# Altium schematic symbol library libSCH.SchLib: 587 symbols (part 3 of 5)
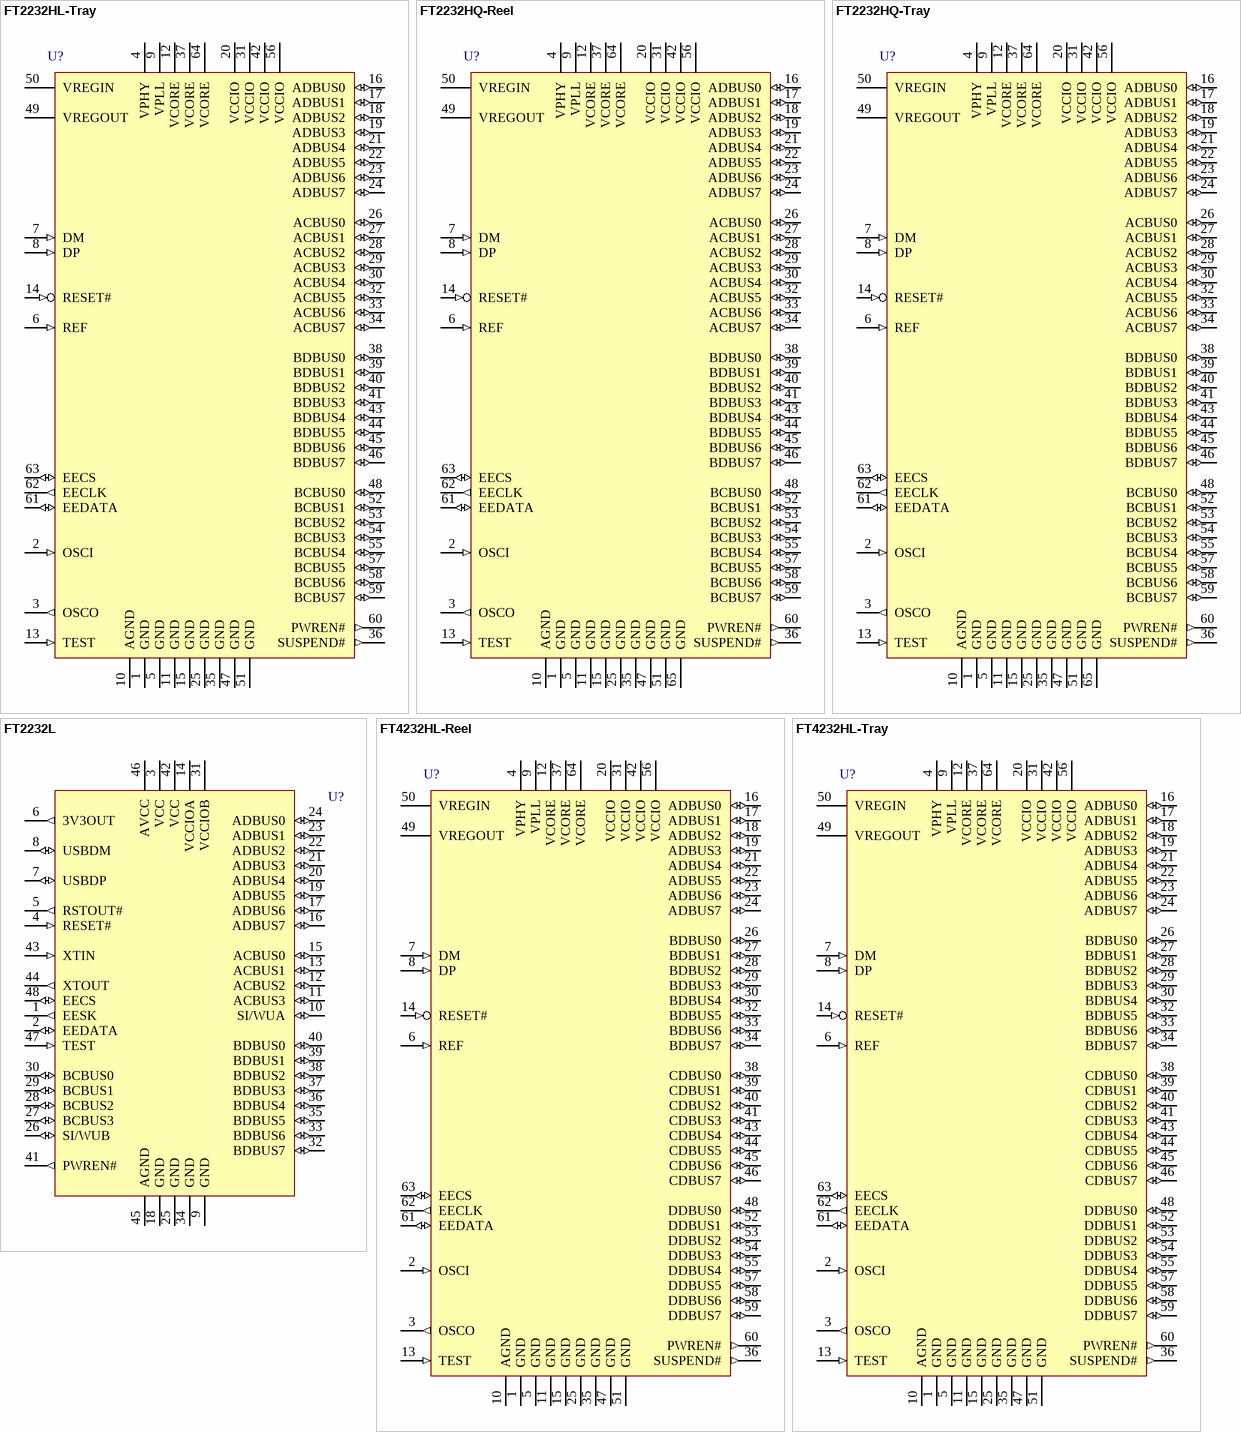
[diagram p27: symbols FT2232HL-Tray to FT4232HL-Tray]

## FT4232HL-Reel
designator U?
Quad High Speed USB To Multipurpose UART/MPSSE IC, LQFP-64, Tape and Reel; Published: 19-Aug-2010; DatasheetVersion: ver 2.08, May-2010; PackageVersion: 2010; PackageReference: LQFP-64; Publisher: Altium Limited; PackageDescription: 64-Pin Thin Quad Flat Pack, 10 x 10 x 1.4 mm Body, 0.5 mm Pitch; ComponentLink1Description: Manufacturer Link; ComponentLink1URL: http://www.ftdichip.com/Products/ICs/FT4232H.htm; ComponentLink2Description: Datasheet; ComponentLink2URL: http://www.ftdichip.com/Support/Documents/DataSheets/ICs/DS_FT4232H.pdf
footprint LQFP-64_N (Thin QFP, 64-Leads, Body 10x10mm, Pitch 0.5mm, IPC Medium Density)
footprint LQFP-64_L (Thin QFP, 64-Leads, Body 10x10mm, Pitch 0.5mm, IPC High Density)
footprint LQFP-64_M (Thin QFP, 64-Leads, Body 10x10mm, Pitch 0.5mm, IPC Low Density)
pins: 1 GND (power), 2 OSCI (in), 3 OSCO (out), 4 VPHY (power), 5 GND (power), 6 REF (in), 7 DM (in), 8 DP (in), 9 VPLL (power), 10 AGND (power), 11 GND (power), 12 VCORE (power), 13 TEST (in), 14 RESET# (in), 15 GND (power), 16 ADBUS0 (io), 17 ADBUS1 (io), 18 ADBUS2 (io), 19 ADBUS3 (io), 20 VCCIO (power), 21 ADBUS4 (io), 22 ADBUS5 (io), 23 ADBUS6 (io), 24 ADBUS7 (io), 25 GND (power), 26 BDBUS0 (io), 27 BDBUS1 (io), 28 BDBUS2 (io), 29 BDBUS3 (io), 30 BDBUS4 (io), 31 VCCIO (power), 32 BDBUS5 (io), 33 BDBUS6 (io), 34 BDBUS7 (io), 35 GND (power), 36 SUSPEND# (out), 37 VCORE (power), 38 CDBUS0 (io), 39 CDBUS1 (io), 40 CDBUS2 (io), 41 CDBUS3 (io), 42 VCCIO (power), 43 CDBUS4 (io), 44 CDBUS5 (io), 45 CDBUS6 (io), 46 CDBUS7 (io), 47 GND (power), 48 DDBUS0 (io), 49 VREGOUT (power), 50 VREGIN (power), 51 GND (power), 52 DDBUS1 (io), 53 DDBUS2 (io), 54 DDBUS3 (io), 55 DDBUS4 (io), 56 VCCIO (power), 57 DDBUS5 (io), 58 DDBUS6 (io), 59 DDBUS7 (io), 60 PWREN# (out), 61 EEDATA (io), 62 EECLK (out), 63 EECS (io), 64 VCORE (power)

## FT4232HL-Tray
designator U?
Quad High Speed USB To Multipurpose UART/MPSSE IC, LQFP-64, Tray; Published: 19-Aug-2010; DatasheetVersion: ver 2.08, May-2010; PackageVersion: 2010; PackageReference: LQFP-64; Publisher: Altium Limited; PackageDescription: 64-Pin Thin Quad Flat Pack, 10 x 10 x 1.4 mm Body, 0.5 mm Pitch; ComponentLink1Description: Manufacturer Link; ComponentLink1URL: http://www.ftdichip.com/Products/ICs/FT4232H.htm; ComponentLink2Description: Datasheet; ComponentLink2URL: http://www.ftdichip.com/Support/Documents/DataSheets/ICs/DS_FT4232H.pdf
footprint LQFP-64_N (Thin QFP, 64-Leads, Body 10x10mm, Pitch 0.5mm, IPC Medium Density)
footprint LQFP-64_L (Thin QFP, 64-Leads, Body 10x10mm, Pitch 0.5mm, IPC High Density)
footprint LQFP-64_M (Thin QFP, 64-Leads, Body 10x10mm, Pitch 0.5mm, IPC Low Density)
pins: 1 GND (power), 2 OSCI (in), 3 OSCO (out), 4 VPHY (power), 5 GND (power), 6 REF (in), 7 DM (in), 8 DP (in), 9 VPLL (power), 10 AGND (power), 11 GND (power), 12 VCORE (power), 13 TEST (in), 14 RESET# (in), 15 GND (power), 16 ADBUS0 (io), 17 ADBUS1 (io), 18 ADBUS2 (io), 19 ADBUS3 (io), 20 VCCIO (power), 21 ADBUS4 (io), 22 ADBUS5 (io), 23 ADBUS6 (io), 24 ADBUS7 (io), 25 GND (power), 26 BDBUS0 (io), 27 BDBUS1 (io), 28 BDBUS2 (io), 29 BDBUS3 (io), 30 BDBUS4 (io), 31 VCCIO (power), 32 BDBUS5 (io), 33 BDBUS6 (io), 34 BDBUS7 (io), 35 GND (power), 36 SUSPEND# (out), 37 VCORE (power), 38 CDBUS0 (io), 39 CDBUS1 (io), 40 CDBUS2 (io), 41 CDBUS3 (io), 42 VCCIO (power), 43 CDBUS4 (io), 44 CDBUS5 (io), 45 CDBUS6 (io), 46 CDBUS7 (io), 47 GND (power), 48 DDBUS0 (io), 49 VREGOUT (power), 50 VREGIN (power), 51 GND (power), 52 DDBUS1 (io), 53 DDBUS2 (io), 54 DDBUS3 (io), 55 DDBUS4 (io), 56 VCCIO (power), 57 DDBUS5 (io), 58 DDBUS6 (io), 59 DDBUS7 (io), 60 PWREN# (out), 61 EEDATA (io), 62 EECLK (out), 63 EECS (io), 64 VCORE (power)

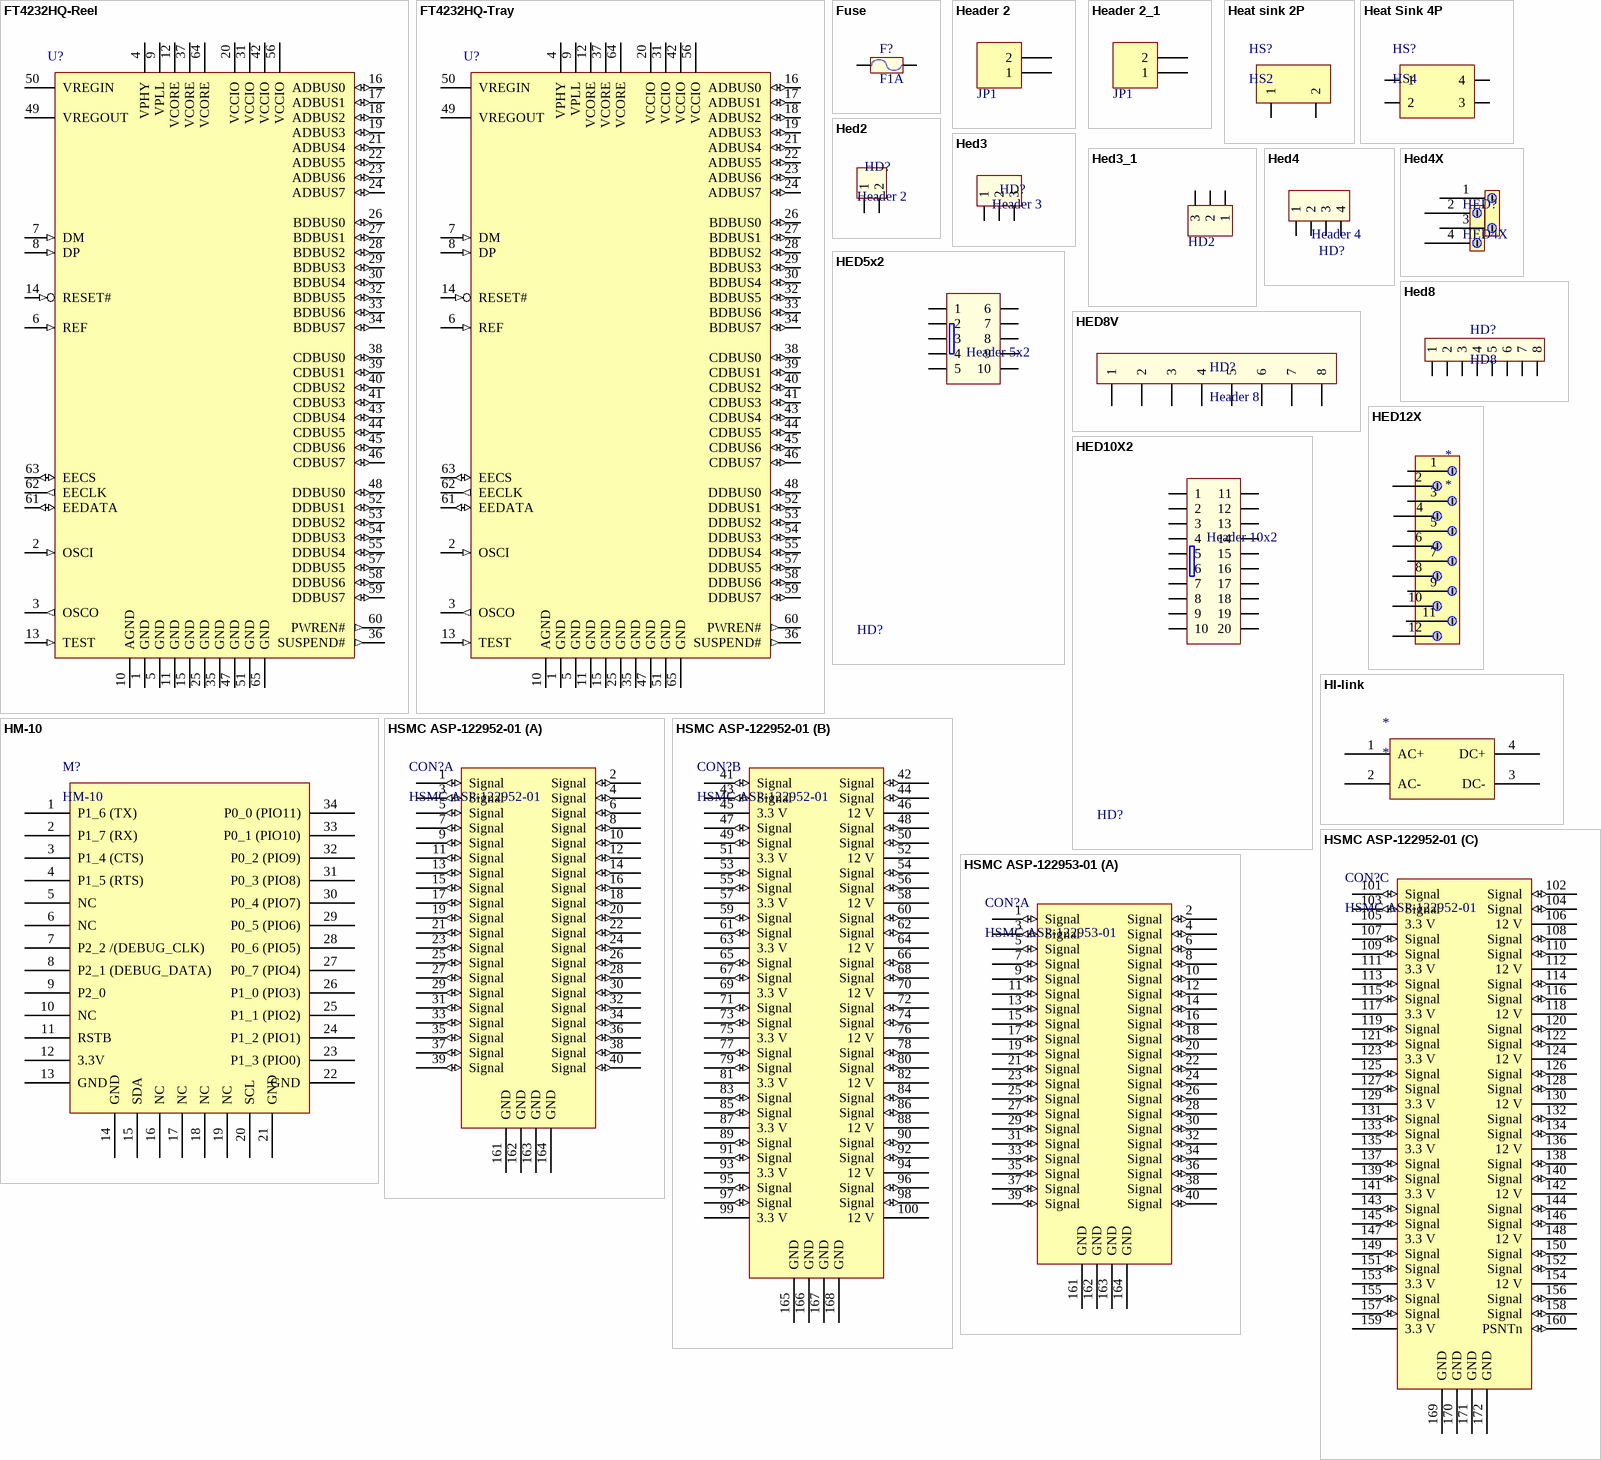
[diagram p12: symbols FT4232HQ-Reel to HSMC ASP-122953-01]

## FT4232HQ-Reel
designator U?
Quad High Speed USB To Multipurpose UART/MPSSE IC, QFN-64, Tape and Reel; Published: 30-Aug-2010; DatasheetVersion: ver 2.08, May-2010; PackageVersion: 2010; PackageReference: QFN64_2; Publisher: Altium Limited; PackageDescription: 64-Pin Quad Flat No-Lead, 9 x 9 mm Body, 0.5 mm Pitch, 4.35 x 4.35 mm Exposed Pad; ComponentLink1Description: Manufacturer Link; ComponentLink1URL: http://www.ftdichip.com/Products/ICs/FT4232H.htm; ComponentLink2Description: Datasheet; ComponentLink2URL: http://www.ftdichip.com/Support/Documents/DataSheets/ICs/DS_FT4232H.pdf
footprint QFN64_2_N (QFN, 64-Leads, Body 9x9mm, Pitch 0.5mm, IPC Medium Density)
footprint QFN64_2_L (QFN, 64-Leads, Body 9x9mm, Pitch 0.5mm, IPC High Density)
footprint QFN64_2_M (QFN, 64-Leads, Body 9x9mm, Pitch 0.5mm, IPC Low Density)
pins: 1 GND (power), 2 OSCI (in), 3 OSCO (out), 4 VPHY (power), 5 GND (power), 6 REF (in), 7 DM (in), 8 DP (in), 9 VPLL (power), 10 AGND (power), 11 GND (power), 12 VCORE (power), 13 TEST (in), 14 RESET# (in), 15 GND (power), 16 ADBUS0 (io), 17 ADBUS1 (io), 18 ADBUS2 (io), 19 ADBUS3 (io), 20 VCCIO (power), 21 ADBUS4 (io), 22 ADBUS5 (io), 23 ADBUS6 (io), 24 ADBUS7 (io), 25 GND (power), 26 BDBUS0 (io), 27 BDBUS1 (io), 28 BDBUS2 (io), 29 BDBUS3 (io), 30 BDBUS4 (io), 31 VCCIO (power), 32 BDBUS5 (io), 33 BDBUS6 (io), 34 BDBUS7 (io), 35 GND (power), 36 SUSPEND# (out), 37 VCORE (power), 38 CDBUS0 (io), 39 CDBUS1 (io), 40 CDBUS2 (io), 41 CDBUS3 (io), 42 VCCIO (power), 43 CDBUS4 (io), 44 CDBUS5 (io), 45 CDBUS6 (io), 46 CDBUS7 (io), 47 GND (power), 48 DDBUS0 (io), 49 VREGOUT (power), 50 VREGIN (power), 51 GND (power), 52 DDBUS1 (io), 53 DDBUS2 (io), 54 DDBUS3 (io), 55 DDBUS4 (io), 56 VCCIO (power), 57 DDBUS5 (io), 58 DDBUS6 (io), 59 DDBUS7 (io), 60 PWREN# (out), 61 EEDATA (io), 62 EECLK (out), 63 EECS (io), 64 VCORE (power), 65 GND (power)

## FT4232HQ-Tray
designator U?
Quad High Speed USB To Multipurpose UART/MPSSE IC, QFN-64, Tray; Published: 30-Aug-2010; DatasheetVersion: ver 2.08, May-2010; PackageVersion: 2010; PackageReference: QFN64_2; Publisher: Altium Limited; PackageDescription: 64-Pin Quad Flat No-Lead, 9 x 9 mm Body, 0.5 mm Pitch, 4.35 x 4.35 mm Exposed Pad; ComponentLink1Description: Manufacturer Link; ComponentLink1URL: http://www.ftdichip.com/Products/ICs/FT4232H.htm; ComponentLink2Description: Datasheet; ComponentLink2URL: http://www.ftdichip.com/Support/Documents/DataSheets/ICs/DS_FT4232H.pdf
footprint QFN64_2_N (QFN, 64-Leads, Body 9x9mm, Pitch 0.5mm, IPC Medium Density)
footprint QFN64_2_L (QFN, 64-Leads, Body 9x9mm, Pitch 0.5mm, IPC High Density)
footprint QFN64_2_M (QFN, 64-Leads, Body 9x9mm, Pitch 0.5mm, IPC Low Density)
pins: 1 GND (power), 2 OSCI (in), 3 OSCO (out), 4 VPHY (power), 5 GND (power), 6 REF (in), 7 DM (in), 8 DP (in), 9 VPLL (power), 10 AGND (power), 11 GND (power), 12 VCORE (power), 13 TEST (in), 14 RESET# (in), 15 GND (power), 16 ADBUS0 (io), 17 ADBUS1 (io), 18 ADBUS2 (io), 19 ADBUS3 (io), 20 VCCIO (power), 21 ADBUS4 (io), 22 ADBUS5 (io), 23 ADBUS6 (io), 24 ADBUS7 (io), 25 GND (power), 26 BDBUS0 (io), 27 BDBUS1 (io), 28 BDBUS2 (io), 29 BDBUS3 (io), 30 BDBUS4 (io), 31 VCCIO (power), 32 BDBUS5 (io), 33 BDBUS6 (io), 34 BDBUS7 (io), 35 GND (power), 36 SUSPEND# (out), 37 VCORE (power), 38 CDBUS0 (io), 39 CDBUS1 (io), 40 CDBUS2 (io), 41 CDBUS3 (io), 42 VCCIO (power), 43 CDBUS4 (io), 44 CDBUS5 (io), 45 CDBUS6 (io), 46 CDBUS7 (io), 47 GND (power), 48 DDBUS0 (io), 49 VREGOUT (power), 50 VREGIN (power), 51 GND (power), 52 DDBUS1 (io), 53 DDBUS2 (io), 54 DDBUS3 (io), 55 DDBUS4 (io), 56 VCCIO (power), 57 DDBUS5 (io), 58 DDBUS6 (io), 59 DDBUS7 (io), 60 PWREN# (out), 61 EEDATA (io), 62 EECLK (out), 63 EECS (io), 64 VCORE (power), 65 GND (power)

## Fuse
designator F?, comment F1A
Fuse; Designed by: VanDungEvn; Value: Fuse
footprint Fuse (De Fuse)
footprint FUSE1 (De Fuse Box)
footprint FUSE2 (Fuse)
pins: 1, 2

## Header 2
designator JP1
Header, 2-Pin; Manufacturer: Generic Components; Class: Connector; Value: Header 2
footprint HEDH
signal-integrity model Connector
pins: 1, 2

## Header 2_1
designator JP1
Header, 2-Pin; Manufacturer: Generic Components; Class: Connector; Value: Header 2
footprint HED2 (Header 2, 2 pin, hight 300mil, Pin to Pin 200, Colour Green)
pins: 1, 2

## Heat sink 2P
designator HS?, comment HS2
Heat Sink 2P
footprint Heat sink 46x17x70mm
pins: 1, 2

## Heat Sink 4P
designator HS?, comment HS4
Heat Sink 4
footprint HEAT SINK 40.2x21.2x40.3mm
pins: 1, 2, 3, 4

## Hed2
designator HD?, comment Header 2
Header 2 (Green); Value: Header 2
footprint HED2 (Header 2, 2 pin, hight 300mil, Pin to Pin 200, Colour Green)
footprint HED2T (Header 2, 2 pin, hight 300mil, Pin to Pin 200, Colour Green)
footprint HED2B (Header 2, 2 pin, hight 300mil, Pin to Pin 150, Colour White)
footprint HED2 - duplicate (Header 2, 2 pin, hight 300mil, Pin to Pin 200, Colour Green)
footprint HED2-7.62
pins: 1, 2

## Hed3
designator HD?, comment Header 3
Header 3 (Green); Value: Header 3
footprint HED3 (Header 3, 3 pin, hight 300mil, Pin to Pin 200)
footprint HED3T (Header 3, 3 pin, hight 300mil, Pin to Pin 200, Colour Green)
footprint HED3B (Header 3, 3 pin, hight 300mil, Pin to Pin 150, Colour White)
pins: 1, 2, 3

## Hed3_1
designator HD2
Header 3 (Green); Value: Header 3
footprint HED3 (Header 3, 3 pin, hight 300mil, Pin to Pin 200)
footprint HED3T (Header 3, 3 pin, hight 300mil, Pin to Pin 200, Colour Green)
footprint HED3B (Header 3, 3 pin, hight 300mil, Pin to Pin 150, Colour White)
pins: 1, 2, 3

## Hed4
designator HD?, comment Header 4
Header 4 (Green); Value: Header 4
footprint HED4 (Header 4, 4 pin, hight 300mil, Pin to Pin 200, Colour Green)
footprint HED4T (Header 4, 4 pin, hight 300mil, Pin to Pin 200, Colour Green)
footprint HED4B (Header 4, 4 pin, hight 300mil, Pin to Pin 150, Colour White)
pins: 1, 2, 3, 4

## Hed4X
designator HED?, comment HED4X
footprint HED4X
pins: 1 G, 2, 3, 4

## HED5x2
designator HD?, comment Header 5x2
Value: Header 5x2
footprint Hed2X5 (Header 10x2,20 pin, connecter)
pins: 1, 2, 3, 4, 5, 6, 7, 8, 9, 10

## Hed8
designator HD?, comment HD8
Hedear 8; Creat by: VanDungEvn@Gmail.com
footprint HED8 (CON8)
pins: 1, 2, 3, 4, 5, 6, 7, 8

## HED8V
designator HD?, comment Header 8
Header 8 Vit Broad
footprint HED8V (Header 6)
pins: 1, 2, 3, 4, 5, 6, 7, 8

## HED10X2
designator HD?, comment Header 10x2
Value: Header 5x2
footprint Hed2X10 (Header 10x2,20 pin, connecter)
pins: 1, 2, 3, 4, 5, 6, 7, 8, 9, 10, 11, 12, 13, 14, 15, 16, 17, 18, 19, 20

## HED12X
designator *
footprint Hed12X
pins: 1 G, 2 (power), 3 (power), 4 (power), 5 (power), 6 (power), 7 (power), 8 (power), 9 (power), 10 (power), 11 (power), 12 (power)

## HI-link
designator *
footprint Hi-link
pins: 1 AC+, 2 AC-, 3 DC-, 4 DC+

## HM-10
designator M?
CC2541 module with AT command
footprint HM10 (CC2541 module with AT Comand)
pins: 1 P1_6 (TX), 2 P1_7 (RX), 3 P1_4 (CTS), 4 P1_5 (RTS), 5 NC, 6 NC, 7 P2_2 /(DEBUG_CLK), 8 P2_1 (DEBUG_DATA), 9 P2_0, 10 NC, 11 RSTB, 12 3.3V, 13 GND, 14 GND, 15 SDA, 16 NC, 17 NC, 18 NC, 19 NC, 20 SCL, 21 GND, 22 GND, 23 P1_3 (PIO0), 24 P1_2 (PIO1), 25 P1_1 (PIO2), 26 P1_0 (PIO3), 27 P0_7 (PIO4), 28 P0_6 (PIO5), 29 P0_5 (PIO6), 30 P0_4 (PIO7), 31 P0_3 (PIO8), 32 P0_2 (PIO9), 33 P0_1 (PIO10), 34 P0_0 (PIO11)

## HSMC ASP-122952-01
designator CON?
HSMC ASP-122952-01 Connector (Female)
footprint HSMC ASP-122952-01-HOLE
footprint HSMC ASP-122953-01
part A pins: 1 Signal (io), 2 Signal (io), 3 Signal (io), 4 Signal (io), 5 Signal (io), 6 Signal (io), 7 Signal (io), 8 Signal (io), 9 Signal (io), 10 Signal (io), 11 Signal (io), 12 Signal (io), 13 Signal (io), 14 Signal (io), 15 Signal (io), 16 Signal (io), 17 Signal (io), 18 Signal (io), 19 Signal (io), 20 Signal (io), 21 Signal (io), 22 Signal (io), 23 Signal (io), 24 Signal (io), 25 Signal (io), 26 Signal (io), 27 Signal (io), 28 Signal (io), 29 Signal (io), 30 Signal (io), 31 Signal (io), 32 Signal (io), 33 Signal (io), 34 Signal (io), 35 Signal (io), 36 Signal (io), 37 Signal (io), 38 Signal (io), 39 Signal (io), 40 Signal (io), 161 GND, 162 GND, 163 GND, 164 GND
part B pins: 41 Signal (io), 42 Signal (io), 43 Signal (io), 44 Signal (io), 45 3.3 V (power), 46 12 V (power), 47 Signal (io), 48 Signal (io), 49 Signal (io), 50 Signal (io), 51 3.3 V (power), 52 12 V (power), 53 Signal (io), 54 Signal (io), 55 Signal (io), 56 Signal (io), 57 3.3 V (power), 58 12 V (power), 59 Signal (io), 60 Signal (io), 61 Signal (io), 62 Signal (io), 63 3.3 V (power), 64 12 V (power), 65 Signal (io), 66 Signal (io), 67 Signal (io), 68 Signal (io), 69 3.3 V (power), 70 12 V (power), 71 Signal (io), 72 Signal (io), 73 Signal (io), 74 Signal (io), 75 3.3 V (power), 76 12 V (power), 77 Signal (io), 78 Signal (io), 79 Signal (io), 80 Signal (io), 81 3.3 V (power), 82 12 V (power), 83 Signal (io), 84 Signal (io), 85 Signal (io), 86 Signal (io), 87 3.3 V (power), 88 12 V (power), 89 Signal (io), 90 Signal (io), 91 Signal (io), 92 Signal (io), 93 3.3 V (power), 94 12 V (power), 95 Signal (io), 96 Signal (io), 97 Signal (io), 98 Signal (io), 99 3.3 V (power), 100 12 V (power), 165 GND, 166 GND, 167 GND, 168 GND
part C pins: 101 Signal (io), 102 Signal (io), 103 Signal (io), 104 Signal (io), 105 3.3 V (power), 106 12 V (power), 107 Signal (io), 108 Signal (io), 109 Signal (io), 110 Signal (io), 111 3.3 V (power), 112 12 V (power), 113 Signal (io), 114 Signal (io), 115 Signal (io), 116 Signal (io), 117 3.3 V (power), 118 12 V (power), 119 Signal (io), 120 Signal (io), 121 Signal (io), 122 Signal (io), 123 3.3 V (power), 124 12 V (power), 125 Signal (io), 126 Signal (io), 127 Signal (io), 128 Signal (io), 129 3.3 V (power), 130 12 V (power), 131 Signal (io), 132 Signal (io), 133 Signal (io), 134 Signal (io), 135 3.3 V (power), 136 12 V (power), 137 Signal (io), 138 Signal (io), 139 Signal (io), 140 Signal (io), 141 3.3 V (power), 142 12 V (power), 143 Signal (io), 144 Signal (io), 145 Signal (io), 146 Signal (io), 147 3.3 V (power), 148 12 V (power), 149 Signal (io), 150 Signal (io), 151 Signal (io), 152 Signal (io), 153 3.3 V (power), 154 12 V (power), 155 Signal (io), 156 Signal (io), 157 Signal (io), 158 Signal (io), 159 3.3 V (power), 160 PSNTn (io), 169 GND, 170 GND, 171 GND, 172 GND

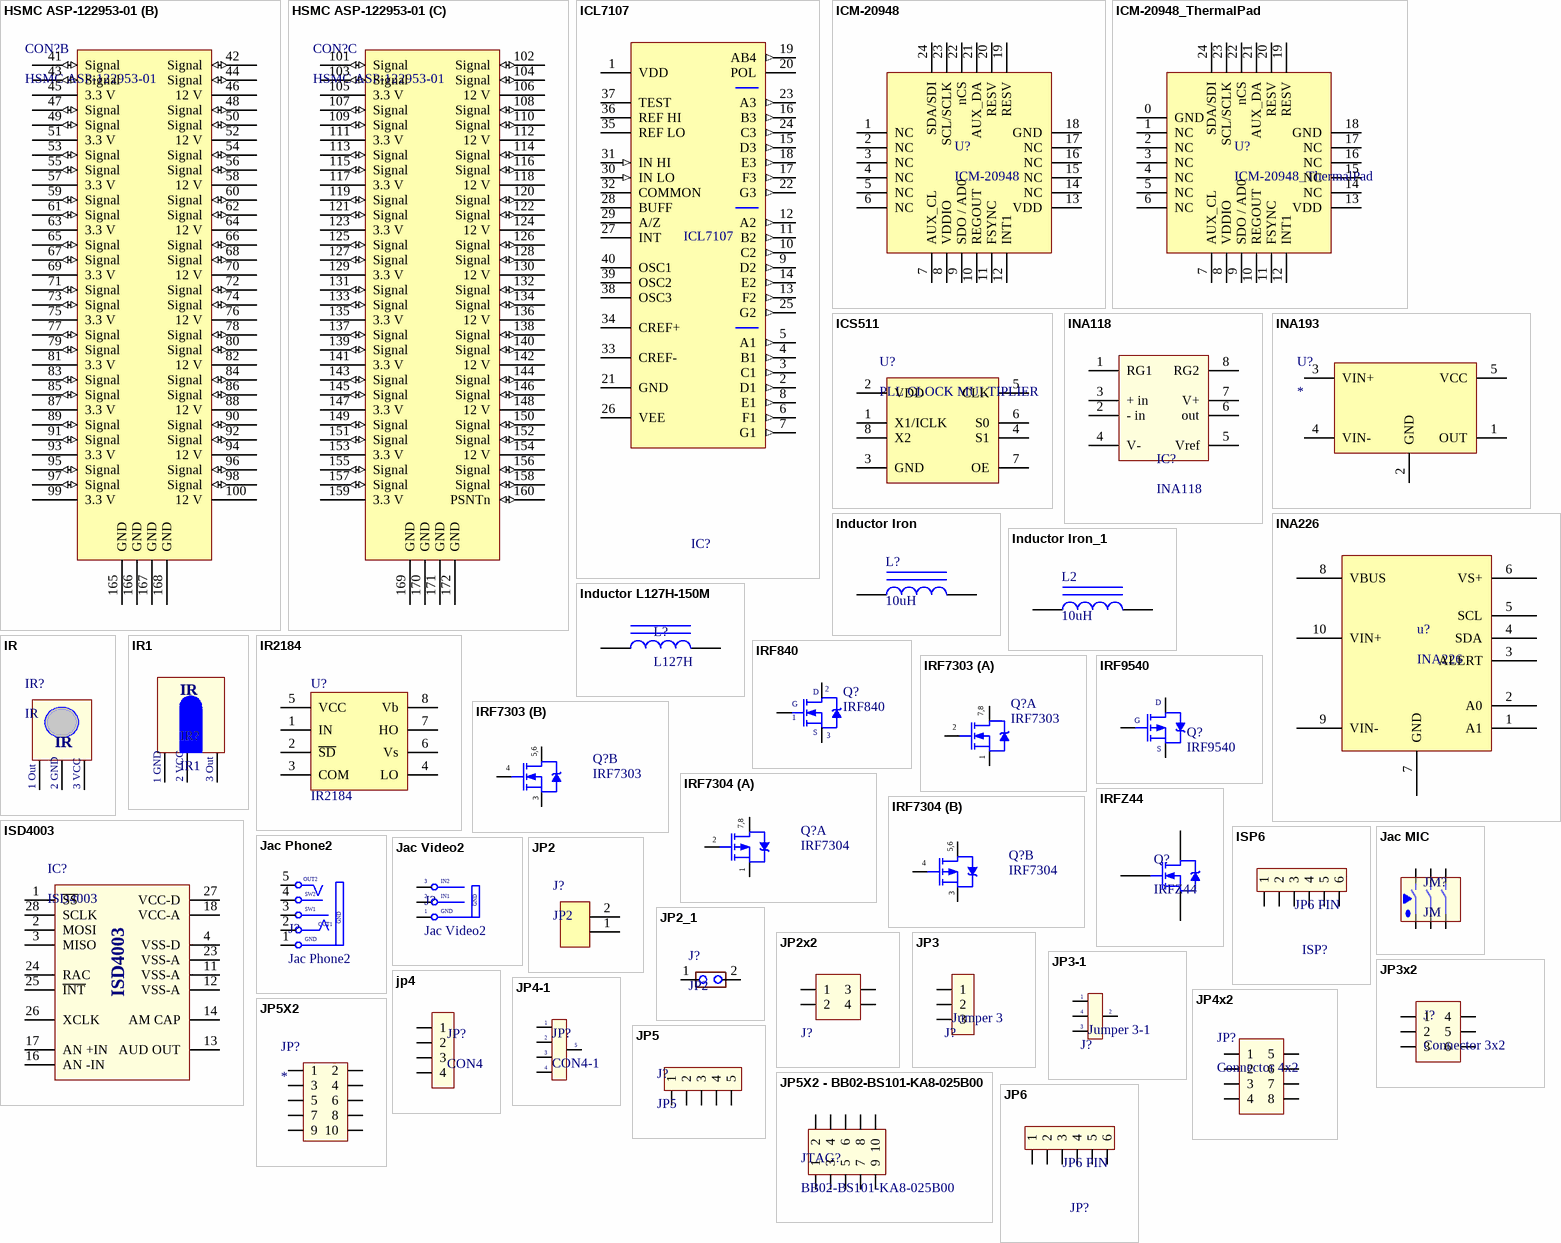
[diagram p13: symbols HSMC ASP-122953-01 to JP6]

## HSMC ASP-122953-01
designator CON?
HSMC ASP-122953-01 Connector
footprint HSMC ASP-122953-01
part A pins: 1 Signal (io), 2 Signal (io), 3 Signal (io), 4 Signal (io), 5 Signal (io), 6 Signal (io), 7 Signal (io), 8 Signal (io), 9 Signal (io), 10 Signal (io), 11 Signal (io), 12 Signal (io), 13 Signal (io), 14 Signal (io), 15 Signal (io), 16 Signal (io), 17 Signal (io), 18 Signal (io), 19 Signal (io), 20 Signal (io), 21 Signal (io), 22 Signal (io), 23 Signal (io), 24 Signal (io), 25 Signal (io), 26 Signal (io), 27 Signal (io), 28 Signal (io), 29 Signal (io), 30 Signal (io), 31 Signal (io), 32 Signal (io), 33 Signal (io), 34 Signal (io), 35 Signal (io), 36 Signal (io), 37 Signal (io), 38 Signal (io), 39 Signal (io), 40 Signal (io), 161 GND, 162 GND, 163 GND, 164 GND
part B pins: 41 Signal (io), 42 Signal (io), 43 Signal (io), 44 Signal (io), 45 3.3 V (power), 46 12 V (power), 47 Signal (io), 48 Signal (io), 49 Signal (io), 50 Signal (io), 51 3.3 V (power), 52 12 V (power), 53 Signal (io), 54 Signal (io), 55 Signal (io), 56 Signal (io), 57 3.3 V (power), 58 12 V (power), 59 Signal (io), 60 Signal (io), 61 Signal (io), 62 Signal (io), 63 3.3 V (power), 64 12 V (power), 65 Signal (io), 66 Signal (io), 67 Signal (io), 68 Signal (io), 69 3.3 V (power), 70 12 V (power), 71 Signal (io), 72 Signal (io), 73 Signal (io), 74 Signal (io), 75 3.3 V (power), 76 12 V (power), 77 Signal (io), 78 Signal (io), 79 Signal (io), 80 Signal (io), 81 3.3 V (power), 82 12 V (power), 83 Signal (io), 84 Signal (io), 85 Signal (io), 86 Signal (io), 87 3.3 V (power), 88 12 V (power), 89 Signal (io), 90 Signal (io), 91 Signal (io), 92 Signal (io), 93 3.3 V (power), 94 12 V (power), 95 Signal (io), 96 Signal (io), 97 Signal (io), 98 Signal (io), 99 3.3 V (power), 100 12 V (power), 165 GND, 166 GND, 167 GND, 168 GND
part C pins: 101 Signal (io), 102 Signal (io), 103 Signal (io), 104 Signal (io), 105 3.3 V (power), 106 12 V (power), 107 Signal (io), 108 Signal (io), 109 Signal (io), 110 Signal (io), 111 3.3 V (power), 112 12 V (power), 113 Signal (io), 114 Signal (io), 115 Signal (io), 116 Signal (io), 117 3.3 V (power), 118 12 V (power), 119 Signal (io), 120 Signal (io), 121 Signal (io), 122 Signal (io), 123 3.3 V (power), 124 12 V (power), 125 Signal (io), 126 Signal (io), 127 Signal (io), 128 Signal (io), 129 3.3 V (power), 130 12 V (power), 131 Signal (io), 132 Signal (io), 133 Signal (io), 134 Signal (io), 135 3.3 V (power), 136 12 V (power), 137 Signal (io), 138 Signal (io), 139 Signal (io), 140 Signal (io), 141 3.3 V (power), 142 12 V (power), 143 Signal (io), 144 Signal (io), 145 Signal (io), 146 Signal (io), 147 3.3 V (power), 148 12 V (power), 149 Signal (io), 150 Signal (io), 151 Signal (io), 152 Signal (io), 153 3.3 V (power), 154 12 V (power), 155 Signal (io), 156 Signal (io), 157 Signal (io), 158 Signal (io), 159 3.3 V (power), 160 PSNTn (io), 169 GND, 170 GND, 171 GND, 172 GND

## ICL7107
designator IC?
Dipslay voltage 0 - 1999; Value: ICL7107
footprint DIP40/W0.6 (40 PIN, W 600mil, Pin to pin 100mil)
pins: 1 VDD (power), 2 D1 (out), 3 C1 (out), 4 B1 (out), 5 A1 (out), 6 F1 (out), 7 G1 (out), 8 E1 (out), 9 D2 (out), 10 C2 (out), 11 B2 (out), 12 A2 (out), 13 F2 (out), 14 E2 (out), 15 D3 (out), 16 B3 (out), 17 F3 (out), 18 E3 (out), 19 AB4 (out), 20 POL, 21 GND (power), 22 G3 (out), 23 A3 (out), 24 C3 (out), 25 G2 (out), 26 VEE (power), 27 INT, 28 BUFF, 29 A/Z, 30 IN LO (in), 31 IN HI (in), 32 COMMON, 33 CREF-, 34 CREF+, 35 REF LO, 36 REF HI, 37 TEST, 38 OSC3, 39 OSC2, 40 OSC1

## ICM-20948
designator U?
footprint QFN24 3.0x3.0x0.9
pins: 1 NC, 2 NC, 3 NC, 4 NC, 5 NC, 6 NC, 7 AUX_CL, 8 VDDIO, 9 SDO / AD0, 10 REGOUT, 11 FSYNC, 12 INT1, 13 VDD, 14 NC, 15 NC, 16 NC, 17 NC, 18 GND, 19 RESV, 20 RESV, 21 AUX_DA, 22 nCS, 23 SCL/SCLK, 24 SDA/SDI

## ICM-20948_ThermalPad
designator U?
footprint QFN24 3.0x3.0x0.9
pins: 0 GND, 1 NC, 2 NC, 3 NC, 4 NC, 5 NC, 6 NC, 7 AUX_CL, 8 VDDIO, 9 SDO / AD0, 10 REGOUT, 11 FSYNC, 12 INT1, 13 VDD, 14 NC, 15 NC, 16 NC, 17 NC, 18 GND, 19 RESV, 20 RESV, 21 AUX_DA, 22 nCS, 23 SCL/SCLK, 24 SDA/SDI

## ICS511
designator U?, comment PLL CLOCK MULTIPLIER
LOCO™ PLL CLOCK MULTIPLIER
footprint SOP8
pins: 1 X1/ICLK, 2 VDD, 3 GND, 4 S1, 5 CLK, 6 S0, 7 OE, 8 X2

## INA118
designator IC?
Precision, Low Power  INSTRUMENTATION AMPLIFIER; Designed by: VanDungEvn; Value: INA118
footprint DIP8/W0.3 (8 PIN, W 300mil, Pin to pin 100mil)
pins: 1 RG1, 2 - in, 3 + in, 4 V-, 5 Vref, 6 out, 7 V+, 8 RG2

## INA193
designator U?
INA19x Current Shunt Monitor −16 V to +80 V Common-Mode Range
footprint SOT-23-5
pins: 1 OUT, 2 GND, 3 VIN+, 4 VIN-, 5 VCC

## INA226
designator u?
INA226 High-Side or Low-Side Measurement with I2C Compatible Interface; Manufacture: Texas Instruments; Part Number: INA226; Value: INA226; Unit Price: *
footprint DGS (S - PDSO - G10) (TSSOP10) (TSSOP, 10-Leads, Body 3x3mm, Pitch 0.5mm)
pins: 1 A1, 2 A0, 3 ALERT, 4 SDA, 5 SCL, 6 VS+, 7 GND, 8 VBUS, 9 VIN-, 10 VIN+

## Inductor Iron
designator L?  value 10uH  (hidden comment: Inductor Iron)
Magnetic-Core Inductor; Manufacturer: Generic Components; Class: Passive; Published: 1999; SubClass: Inductor
footprint R1/2W (R 1/2W, 2 pin, 300mil)
footprint 0805_Inductor (Chip Resistor, Body 2.0x1.2mm, IPC Medium Density)
footprint CD75 (Inductor SMD)
pins: 1, 2

## Inductor Iron_1
designator L2, comment value 10uH  (hidden comment: Inductor Iron)
Magnetic-Core Inductor; Manufacturer: Generic Components; Class: Passive; Published: 1999; SubClass: Inductor
footprint R1/2W (R 1/2W, 2 pin, 300mil)
pins: 1, 2

## Inductor L127H-150M
designator L?, comment L127H
15uH/3A SMD 12x12x8mm inductor (tme.vn)
footprint 12x12x8mm inductor
pins: 1, 2

## IR
designator IR?
Receiver Infraed IC
footprint IR (Receiver Infared IC)
pins: 1 Out, 2 GND, 3 VCC
text: 1 Out; 2 GND; 3 VCC

## IR1
designator IR?
Receiver Infraed IC
footprint IR2 (Receiver Infared IC)
pins: 1 Out, 2 GND, 3 VCC
text: IR; 1 GND; 2 VCC; 3 Out

## IR2184
designator U?
Half-Bridge Driver
footprint DIP8/W0.3 (8 PIN, W 300mil, Pin to pin 100mil)
pins: 1 IN, 2 ~{SD}, 3 COM, 4 LO, 5 VCC, 6 Vs, 7 HO, 8 Vb

## IRF840
designator Q?
MOSFET N - CHANNEL 500V - 0.75 - 8A - TO-220; Value: IRF840
footprint QTO-220 (TO-220 - 1-2-3)
footprint TO-220AB - Horizontal (TO, Thru-Hole, Horizontal, Heatsink Mounted; 3 In-Line Leads; Pitch 2.54 mm)
pins: 1 G, 2 D, 3 S

## IRF7303
designator Q?
HEXFET Power MOSFET; Published: 8-Jun-2000; LatestRevisionDate: 13-Apr-2006; LatestRevisionNote: IPC-7351 Footprint Added.; DatasheetVersion: Aug-1997; PackageVersion: Feb-2001; PackageReference: SO-8; Publisher: Altium Limited; PackageDescription: 8-Pin Plastic Small Outline Integrated Circuit 1.27 mm Pitch; Code_JEDEC: MS-012-AA; Code_IPC: SOIC127P600-8; ComponentLink1Description: Manufacturer Link; ComponentLink1URL: http://www.irf.com/; ComponentLink2Description: Datasheet; ComponentLink2URL: http://www.irf.com/product-info/datasheets/data/irf7303.pdf
footprint SO-8 (8-Pin Small Outline Integrated Circuit 1.27 mm Pitch, IPC Medium Density)
part A pins: 1 S, 2 G, 7 D, 8 D
part B pins: 3 S, 4 G, 5 D, 6 D
part A text: 7,8
part B text: 5,6

## IRF7304
designator Q?
HEXFET Power MOSFET; Published: 8-Jun-2000; LatestRevisionDate: 13-Apr-2006; LatestRevisionNote: IPC-7351 Footprint Added.; DatasheetVersion: Aug-1997; PackageVersion: Feb-2001; PackageReference: SO-8; Publisher: Altium Limited; PackageDescription: 8-Pin Plastic Small Outline Integrated Circuit 1.27 mm Pitch; Code_JEDEC: MS-012-AA; Code_IPC: SOIC127P600-8; ComponentLink1Description: Manufacturer Link; ComponentLink1URL: http://www.irf.com/; ComponentLink2Description: Datasheet; ComponentLink2URL: http://www.irf.com/product-info/datasheets/data/irf7304.pdf
footprint SO-8 (8-Pin Small Outline Integrated Circuit 1.27 mm Pitch, IPC Medium Density)
simulation model IRF7304 (SUBCKT)
part A pins: 1 S, 2 G, 7 D, 8 D
part B pins: 3 S, 4 G, 5 D, 6 D
part A text: 7,8
part B text: 5,6

## IRF9540
designator Q?
HEXFET P-Channel Power MOSFET; Note: Pin 2 is electrically connected to pin 4.; Published: 8-Jun-2000; LatestRevisionDate: 17-Jul-2002; LatestRevisionNote: Re-released for DXP Platform.; DatasheetVersion: PD-9.421C; PackageVersion: Feb-1997; PackageReference: TO-220AB; Publisher: Altium Limited; PackageDescription: TO, Thru-Hole, Vertical, Heatsink Mounted; 3 In-Line Leads; Pitch 2.54 mm; ComponentLink1Description: Manufacturer Link; ComponentLink1URL: http://www.irf.com/; ComponentLink2Description: Datasheet; ComponentLink2URL: http://www.irf.com/product-info/datasheets/data/irf9540.pdf
footprint QTO-220 (TO-220 - 1-2-3)
simulation model IRF9540 (SUBCKT)
pins: 1 G, 2 D, 3 S

## IRFZ44
designator Q?
HEXFET N-Channel Power MOSFET
footprint QTO-220H3 (TO-220 1-2-3)
pins: 1 G, 2 D, 3 S

## ISD4003
designator IC?
Single-chip voice Record/Playback solution
footprint DIP28/W0.6 (DIP28/W.600, Pin to pin 100mil)
pins: 1 ~{SS}, 2 MOSI, 3 MISO, 4 VSS-D, 11 VSS-A, 12 VSS-A, 13 AUD OUT, 14 AM CAP, 16 AN -IN, 17 AN +IN, 18 VCC-A, 23 VSS-A, 24 RAC, 25 ~{INT}, 26 XCLK, 27 VCC-D, 28 SCLK

## ISP6
designator ISP?, comment JP6 PIN
ISP6 PIN; Value: JP7
footprint ISP6 (Jac nap PIC)
pins: 1, 2, 3, 4, 5, 6, 7, 8

## Jac MIC
designator JM?, comment JM
Jac Micro; Value: Jac MIC to 6 pin
footprint MIC6 (Footprint not found)
pins: 1, 2, 3, 4, 5, 6

## Jac Phone2
designator J?
Jac Phone Stereo; Creat by: VanDungEvn@Gmail.com
footprint JacPhone2 (Jac Phone Stereo)
footprint JAC_PHONE2 (Jac Phone Stereo)
pins: 1 "Tip", 2 "Tip Normal (Break Contact)", 3 "Tip Normal (Break Contact)", 4 (power) "Sleeve (Ground)", 5 (power) "Sleeve (Ground)"
text: OUT2; SW2; SW1; GND; OUT1

## Jac Video2
designator J?
Jac Video Stereo
footprint Jac Video2 (Footprint not found)
pins: 1 GND "Tip", 2 S1 (power) "Sleeve (Ground)", 3 S2 "Tip Normal (Break Contact)"
text: IN2; IN1

## JP2
designator J?
footprint JP2
footprint JP2 1.27mm
footprint jp2-3.96mm
footprint JP2_Pitch2mm
footprint Terminal block 10mm pitch - 2p
pins: 1 9, 2

## JP2_1
designator J?, comment JP2
footprint JP2
footprint JP2 1.27mm
footprint jp2-3.96mm
footprint JP2_Pitch2mm
footprint Terminal block 10mm pitch - 2p
pins: 1 9, 2

## JP2x2
designator J?, comment Jumper 2x2  (value not drawn)
Value: JP 2x2
footprint JP2X2
footprint JP2x2FM
footprint JP2x2 - 2.54mm SMD
pins: 1, 2, 3, 4

## JP3
designator J?, comment Jumper 3
Value: J3
footprint JP3 (Jumper 3)
footprint JP3H
footprint JP3x1 1.27
pins: 1, 2, 3

## JP3-1
designator J?, comment Jumper 3-1
Value: J3-1
footprint J3-1 (Jumper 4)
pins: 1, 2, 3, 4

## JP3x2
designator J?, comment Connector 3x2
Value: Connector 3x2
footprint JP3x2 (Connector 3x2)
pins: 1, 2, 3, 4, 5, 6

## jp4
designator JP?, comment CON4
footprint JP4 (Jumper 4)
pins: 1, 2, 3, 4

## JP4-1
designator JP?, comment CON4-1
Switch 4ch CON; Manufacture: *; Unit Price: *; Part Number: *; Value: CON
footprint JP4-1 (Switching 4ch con)
pins: 1, 2, 3, 4, 5

## JP4x2
designator JP?, comment Connector 4x2
Value: Connector 4x2
footprint JP4x2 (Connector 4x2)
footprint JP4x2 - FEMALE (Connector 4x2)
footprint JP4x2 - 2.54mm SMD
pins: 1, 2, 3, 4, 5, 6, 7, 8

## JP5
designator J?
footprint JP5
footprint JP5H
pins: 1, 2, 3, 4, 5

## JP5X2
designator JP?
footprint JP5X2
footprint JP5X2 - FEMALE
footprint IDC10 HORIZONTAL
footprint JP5x2 - 2.54mm SMD
pins: 1, 2, 3, 4, 5, 6, 7, 8, 9, 10

## JP5X2 - BB02-BS101-KA8-025B00
designator JTAG?, comment BB02-BS101-KA8-025B00
CONNECTOR, HEADER, MALE, 2 ROWS, 10 PINS, PITCH 1.27mm, SMD; Manufacture: GradConn; Unit Price: *; Part Number: *; Value: *
footprint JP5x2_1.27mm Pitch SMD
pins: 1, 2, 3, 4, 5, 6, 7, 8, 9, 10

## JP6
designator JP?, comment JP6 PIN
Value: JP7
footprint JP6
footprint JP6H
footprint 6P - TERMINAL BLOCK 9.5MM
pins: 1, 2, 3, 4, 5, 6

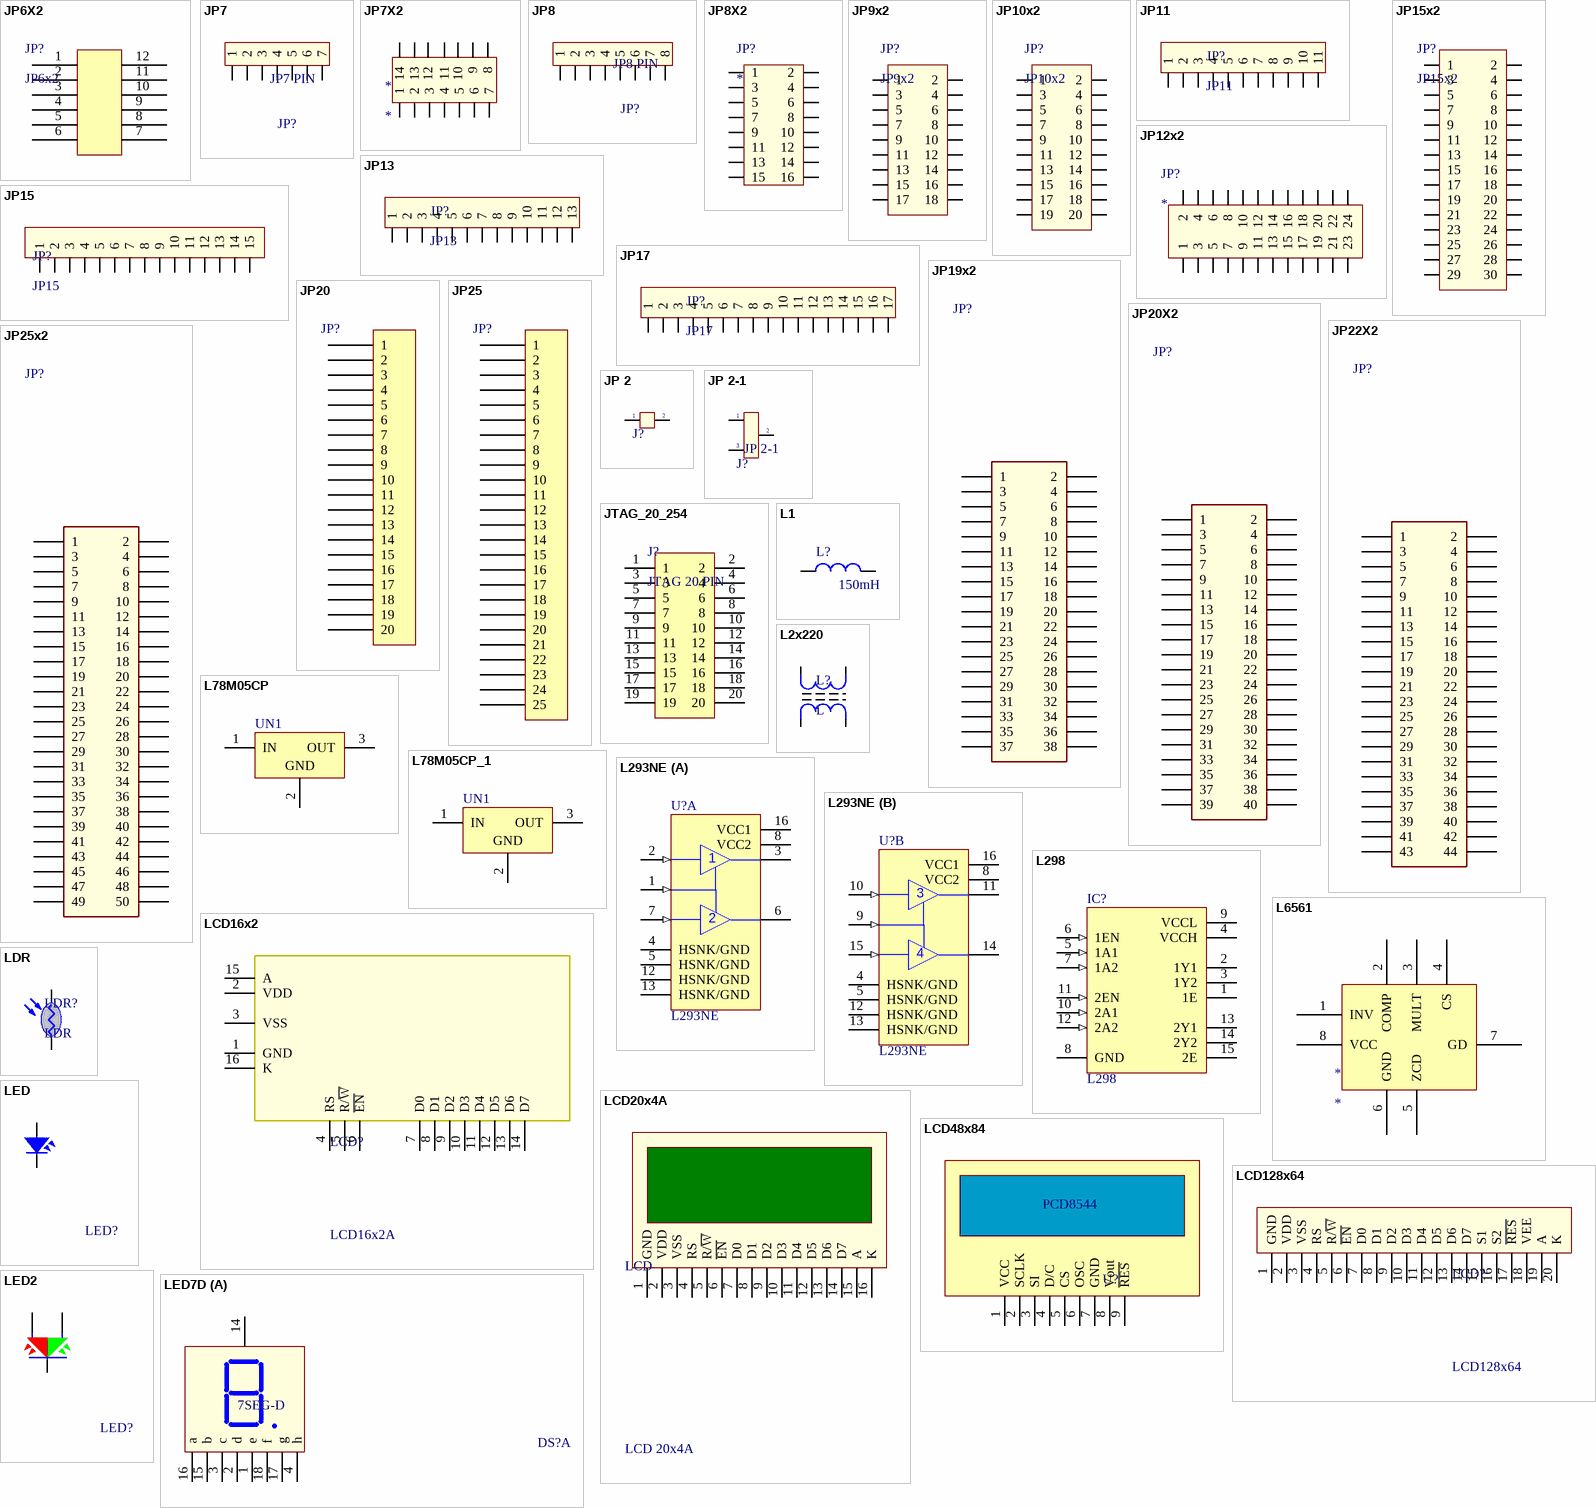
[diagram p14: symbols JP6X2 to LED7D]

## JP6X2
designator JP?, comment JP6x2
footprint JP6X2
pins: 1, 2, 3, 4, 5, 6, 7, 8, 9, 10, 11, 12

## JP7
designator JP?, comment JP7 PIN
Value: JP7
footprint JP7
footprint JP7H
pins: 1, 2, 3, 4, 5, 6, 7

## JP7X2
designator *
footprint JP7X2
pins: 1, 2, 3, 4, 5, 6, 7, 8, 9, 10, 11, 12, 13, 14

## JP8
designator JP?, comment JP8 PIN
Value: JP7
footprint JP8
footprint JP8H
pins: 1, 2, 3, 4, 5, 6, 7, 8

## JP8X2
designator JP?
footprint JP8X2
footprint JP8X2 - female
pins: 1, 2, 3, 4, 5, 6, 7, 8, 9, 10, 11, 12, 13, 14, 15, 16

## JP9x2
designator JP?
footprint JP9x2
pins: 1, 2, 3, 4, 5, 6, 7, 8, 9, 10, 11, 12, 13, 14, 15, 16, 17, 18

## JP10x2
designator JP?
footprint JP10X2H
footprint JP10X2FM
footprint JP10X2H
footprint JP10X2M
pins: 1, 2, 3, 4, 5, 6, 7, 8, 9, 10, 11, 12, 13, 14, 15, 16, 17, 18, 19, 20

## JP11
designator JP?
2.54mm pitch, 11 pin Connect sil female; Manufacture: *; Value: JP11; Part Number: *
footprint JP11
pins: 1, 2, 3, 4, 5, 6, 7, 8, 9, 10, 11

## JP12x2
designator JP?
footprint JP12x2
pins: 1, 2, 3, 4, 5, 6, 7, 8, 9, 10, 11, 12, 13, 14, 15, 16, 17, 18, 19, 20, 21, 22, 23, 24

## JP13
designator JP?
2.54mm pitch, 13 pin Connect sil female; Value: JP11; Manufacture: *; Part Number: *
footprint JP13
pins: 1, 2, 3, 4, 5, 6, 7, 8, 9, 10, 11, 12, 13

## JP15
designator JP?
2.54mm pitch, 15 pin Connect sil female; Value: JP11; Manufacture: *; Part Number: *
footprint JP15
pins: 1, 2, 3, 4, 5, 6, 7, 8, 9, 10, 11, 12, 13, 14, 15

## JP15x2
designator JP?
2.54mm pitch, 15x2 pin Connect sil female; Value: JP11; Manufacture: *; Part Number: *
footprint JP15x2
pins: 1, 2, 3, 4, 5, 6, 7, 8, 9, 10, 11, 12, 13, 14, 15, 16, 17, 18, 19, 20, 21, 22, 23, 24, 25, 26, 27, 28, 29, 30

## JP17
designator JP?
2.54mm pitch, 17 pin Connect sil female; Value: JP11; Manufacture: *; Part Number: *
footprint JP17
pins: 1, 2, 3, 4, 5, 6, 7, 8, 9, 10, 11, 12, 13, 14, 15, 16, 17

## JP19x2
designator JP?, comment BOTTOM  (value not drawn)
footprint JP19x2 (Connector; Header; 19x2 Position)
pins: 1, 2, 3, 4, 5, 6, 7, 8, 9, 10, 11, 12, 13, 14, 15, 16, 17, 18, 19, 20, 21, 22, 23, 24, 25, 26, 27, 28, 29, 30, 31, 32, 33, 34, 35, 36, 37, 38

## JP20
designator JP?
Connector 20 pin
footprint JP20x1
pins: 1, 2, 3, 4, 5, 6, 7, 8, 9, 10, 11, 12, 13, 14, 15, 16, 17, 18, 19, 20

## JP20X2
designator JP?, comment BOTTOM  (value not drawn)
footprint JP20X2 (Connector; Header; 20x2 Position)
pins: 1, 2, 3, 4, 5, 6, 7, 8, 9, 10, 11, 12, 13, 14, 15, 16, 17, 18, 19, 20, 21, 22, 23, 24, 25, 26, 27, 28, 29, 30, 31, 32, 33, 34, 35, 36, 37, 38, 39, 40

## JP22X2
designator JP?, comment BOTTOM  (value not drawn)
footprint JP22X2 (Connector; Header; 22x2 Position)
pins: 1, 2, 3, 4, 5, 6, 7, 8, 9, 10, 11, 12, 13, 14, 15, 16, 17, 18, 19, 20, 21, 22, 23, 24, 25, 26, 27, 28, 29, 30, 31, 32, 33, 34, 35, 36, 37, 38, 39, 40, 41, 42, 43, 44

## JP25
designator JP?  (value not drawn)
Header 25x1
footprint JP25x1
pins: 1, 2, 3, 4, 5, 6, 7, 8, 9, 10, 11, 12, 13, 14, 15, 16, 17, 18, 19, 20, 21, 22, 23, 24, 25

## JP25x2
designator JP?, comment BOTTOM  (value not drawn)
footprint JP25X2 (Connector; Header; 25x2 Position)
pins: 1, 2, 3, 4, 5, 6, 7, 8, 9, 10, 11, 12, 13, 14, 15, 16, 17, 18, 19, 20, 21, 22, 23, 24, 25, 26, 27, 28, 29, 30, 31, 32, 33, 34, 35, 36, 37, 38, 39, 40, 41, 42, 43, 44, 45, 46, 47, 48, 49, 50

## JP 2
designator J?, comment Jumper 2  (value not drawn)
Value: JP 2
footprint JP2
footprint jp2h
footprint JP2 1.27mm
pins: 1, 2

## JP 2-1
designator J?
Jumper 2-1; Value: J2-1
footprint JP3 (Jumper 3)
pins: 1, 2, 3

## JTAG_20_254
designator J?, comment JTAG 20 PIN
JTAG 20 PIN, PITCH 2.54 MM
footprint JTAG20_254
pins: 1, 2, 3, 4, 5, 6, 7, 8, 9, 10, 11, 12, 13, 14, 15, 16, 17, 18, 19, 20

## L1
designator L?, comment 150mH
Inductor; Value: 150 mH
footprint L/0.4 (Inductor , 2 Pin, L 350mil, W 150 mil)
footprint L01 (Inductor)
footprint 0805_Inductor (Chip Resistor, Body 2.0x1.2mm, IPC Medium Density)
footprint 0402 (Chip Capacitor, Body 1.0x0.5mm, IPC High Density)
pins: 1, 2

## L2x220
designator L?, comment L
Inductor; Value: Loc 220; Designed by: VanDungEvn
footprint L2x220
pins: 1, 2, 3, 4

## L78M05CP
designator UN1  (value not drawn)
Positive Voltage Regulator; Note: Tab is connected to pin 3 (GND).; Published: 24-Aug-2001; LatestRevisionDate: 17-Jul-2002; LatestRevisionNote: Re-released for DXP Platform.; DatasheetVersion: Apr-1994; PackageVersion: Jul-1998; PackageReference: ISOWATT220AB; Publisher: Altium Limited; PackageDescription: TO, Thru-Hole, Vertical, Heatsink Mounted; 3 In-Line Leads; Pitch 2.54 mm; Pin sequence 1, 3, 2; ComponentLink1Description: Manufacturer Link; ComponentLink1URL: http://www.st.com/; ComponentLink2Description: Datasheet; ComponentLink2URL: http://www.st.com/stonline/products/literature/ds/2146/l78m05c.pdf
footprint QTO-220H2 (TO-220 - 1-2-3)
pins: 1 IN (power), 2 GND (power), 3 OUT (power)

## L78M05CP_1
designator UN1, comment L78M05CP  (value not drawn)
Positive Voltage Regulator; Note: Tab is connected to pin 3 (GND).; Published: 24-Aug-2001; LatestRevisionDate: 17-Jul-2002; LatestRevisionNote: Re-released for DXP Platform.; DatasheetVersion: Apr-1994; PackageVersion: Jul-1998; PackageReference: ISOWATT220AB; Publisher: Altium Limited; PackageDescription: TO, Thru-Hole, Vertical, Heatsink Mounted; 3 In-Line Leads; Pitch 2.54 mm; Pin sequence 1, 3, 2; ComponentLink1Description: Manufacturer Link; ComponentLink1URL: http://www.st.com/; ComponentLink2Description: Datasheet; ComponentLink2URL: http://www.st.com/stonline/products/literature/ds/2146/l78m05c.pdf
footprint QTO-220H2 (TO-220 - 1-2-3)
pins: 1 IN (power), 2 GND (power), 3 OUT (power)

## L293NE
designator U?
Quadruple Half-H Driver; Published: 15-May-2002; LatestRevisionDate: 04-Mar-2005; LatestRevisionNote: Stylized 3D Model Added.; DatasheetVersion: May-1990; PackageVersion: 1991; PackageReference: NE016; Publisher: Altium Limited; PackageDescription: DIP; 16 Leads; Row Spacing 7.62 mm; Pitch 2.54 mm; Code_JEDEC: MS-001-BB; ComponentLink1Description: Manufacturer Link; ComponentLink1URL: http://www.ti.com/; ComponentLink2Description: Datasheet; ComponentLink2URL: http://www-s.ti.com/sc/ds/l293.pdf
footprint DIP16/W0.3 (16 PIN, W 300mil, Pin to pin 100mil)
pins on every part: 4 HSNK/GND (power), 5 HSNK/GND (power), 8 VCC2 (power), 12 HSNK/GND (power), 13 HSNK/GND (power), 16 VCC1 (power)
part A pins: 1 1,2EN (in), 2 1A (in), 3 1Y (hiz), 6 2Y (hiz), 7 2A (in)
part B pins: 9 3,4EN (in), 10 3A (in), 11 3Y (hiz), 14 4Y (hiz), 15 4A (in)

## L298
designator IC?
Dual Full-H Driver; Note: The tab is elec is connected to GND pin; Published: 15-May-2002; DatasheetVersion: Jun-1990; PackageReference: KV015; Publisher: Altium Limited; PackageDescription: TO, Thru-Hole, Vertical, Heatsink Mounted; 15 Bent Staggered Leads; Pitch 1.27 mm; ComponentLink1Description: Manufacturer Link; ComponentLink1URL: http://www.ti.com/
footprint DIP15SL2 (TO, Thru-Hole, Vertical, Heatsink Mounted; 15 Bent Staggered Leads; Pitch 1.27 mm)
pins: 1 1E, 2 1Y1 (hiz), 3 1Y2 (hiz), 4 VCCH (power), 5 1A1 (in), 6 1EN (in), 7 1A2 (in), 8 GND (power), 9 VCCL (power), 10 2A1 (in), 11 2EN (in), 12 2A2 (in), 13 2Y1 (hiz), 14 2Y2 (hiz), 15 2E

## L6561
designator *
footprint DIP8/W0.3 (8 PIN, W 300mil, Pin to pin 100mil)
pins: 1 INV, 2 COMP, 3 MULT, 4 CS, 5 ZCD, 6 GND (power), 7 GD, 8 VCC (power)

## LCD16x2
designator LCD?, comment LCD16x2A
LCD dipslay 16 char, 2 line; Value: LCD16x2A
footprint LCD16X2N (LCD dipslay 16x2, 16 pin)
footprint LCD16X2 (LCD dipslay 16x2, 16 pin)
pins: 1 GND, 2 VDD, 3 VSS, 4 RS, 5 R/~{W}, 6 ~{EN}, 7 D0, 8 D1, 9 D2, 10 D3, 11 D4, 12 D5, 13 D6, 14 D7, 15 A, 16 K

## LCD20x4A
designator LCD, comment LCD 20x4A
LCD dipslay 20 char, 4 line; Value: Jum 40; Value: LCD 20x4A
footprint LCD20X4A (LCD dipslay 20x4, 16 pin)
pins: 1 GND, 2 VDD, 3 VSS, 4 RS, 5 R/~{W}, 6 ~{EN}, 7 D0, 8 D1, 9 D2, 10 D3, 11 D4, 12 D5, 13 D6, 14 D7, 15 A, 16 K

## LCD48x84
designator U?, comment PCD8544
LCD Graphic; Value: PCD8544
footprint CON9
pins: 1 VCC, 2 SCLK, 3 SI, 4 D/C, 5 CS, 6 OSC, 7 GND, 8 Vout, 9 ~{RES}

## LCD128x64
designator LCD?
LCD Graphic 128x64; Value: LCD 128x64
footprint LCD128x64 (LCD Graphic 128x64, 20 pin)
pins: 1 GND, 2 VDD, 3 VSS, 4 RS, 5 R/~{W}, 6 ~{EN}, 7 D0, 8 D1, 9 D2, 10 D3, 11 D4, 12 D5, 13 D6, 14 D7, 15 S1, 16 S2, 17 ~{RES}, 18 VEE, 19 A, 20 K

## LDR
designator LDR?
Quang Tro
footprint CDS (Footprint not found)
pins: 1 A, 2 K

## LED
designator LED?  (value not drawn)
LED Single colour Green and Red; Value: LED 3 ly Single Colour; Manufacture: *; Unit Price: *; Part Number: *
footprint LED-5-BLUE (LED 2 PIN, 5 ly , Only colour, pin to pin 110mil)
footprint LED-5-Green (LED 2 PIN, 5 ly , Only colour,pin to pin 100mil)
footprint LED-5-RED (LED 2 PIN, 5 ly , Only colour,pin to pin 100mil)
footprint LED-5-WHITE (LED 2 PIN, 5 ly , Only colour, pin to pin 110mil)
footprint LED-5-Yellow (LED 2 PIN, 5 ly , Only colour,pin to pin 100mil)
footprint LED-3 (LED 2 PIN, 3ly Only colour)
pins: 1, 2

## LED2
designator LED?, comment LED  (value not drawn)
LED 2 colour Green and Red; Value: LED 3 - 5 ly 2 Colour
footprint LED-32 (LED 3 PIN, 3ly Two colour)
footprint LED-52 (LED 3 PIN, 5 ly , Two colour)
pins: 1, 2, 3

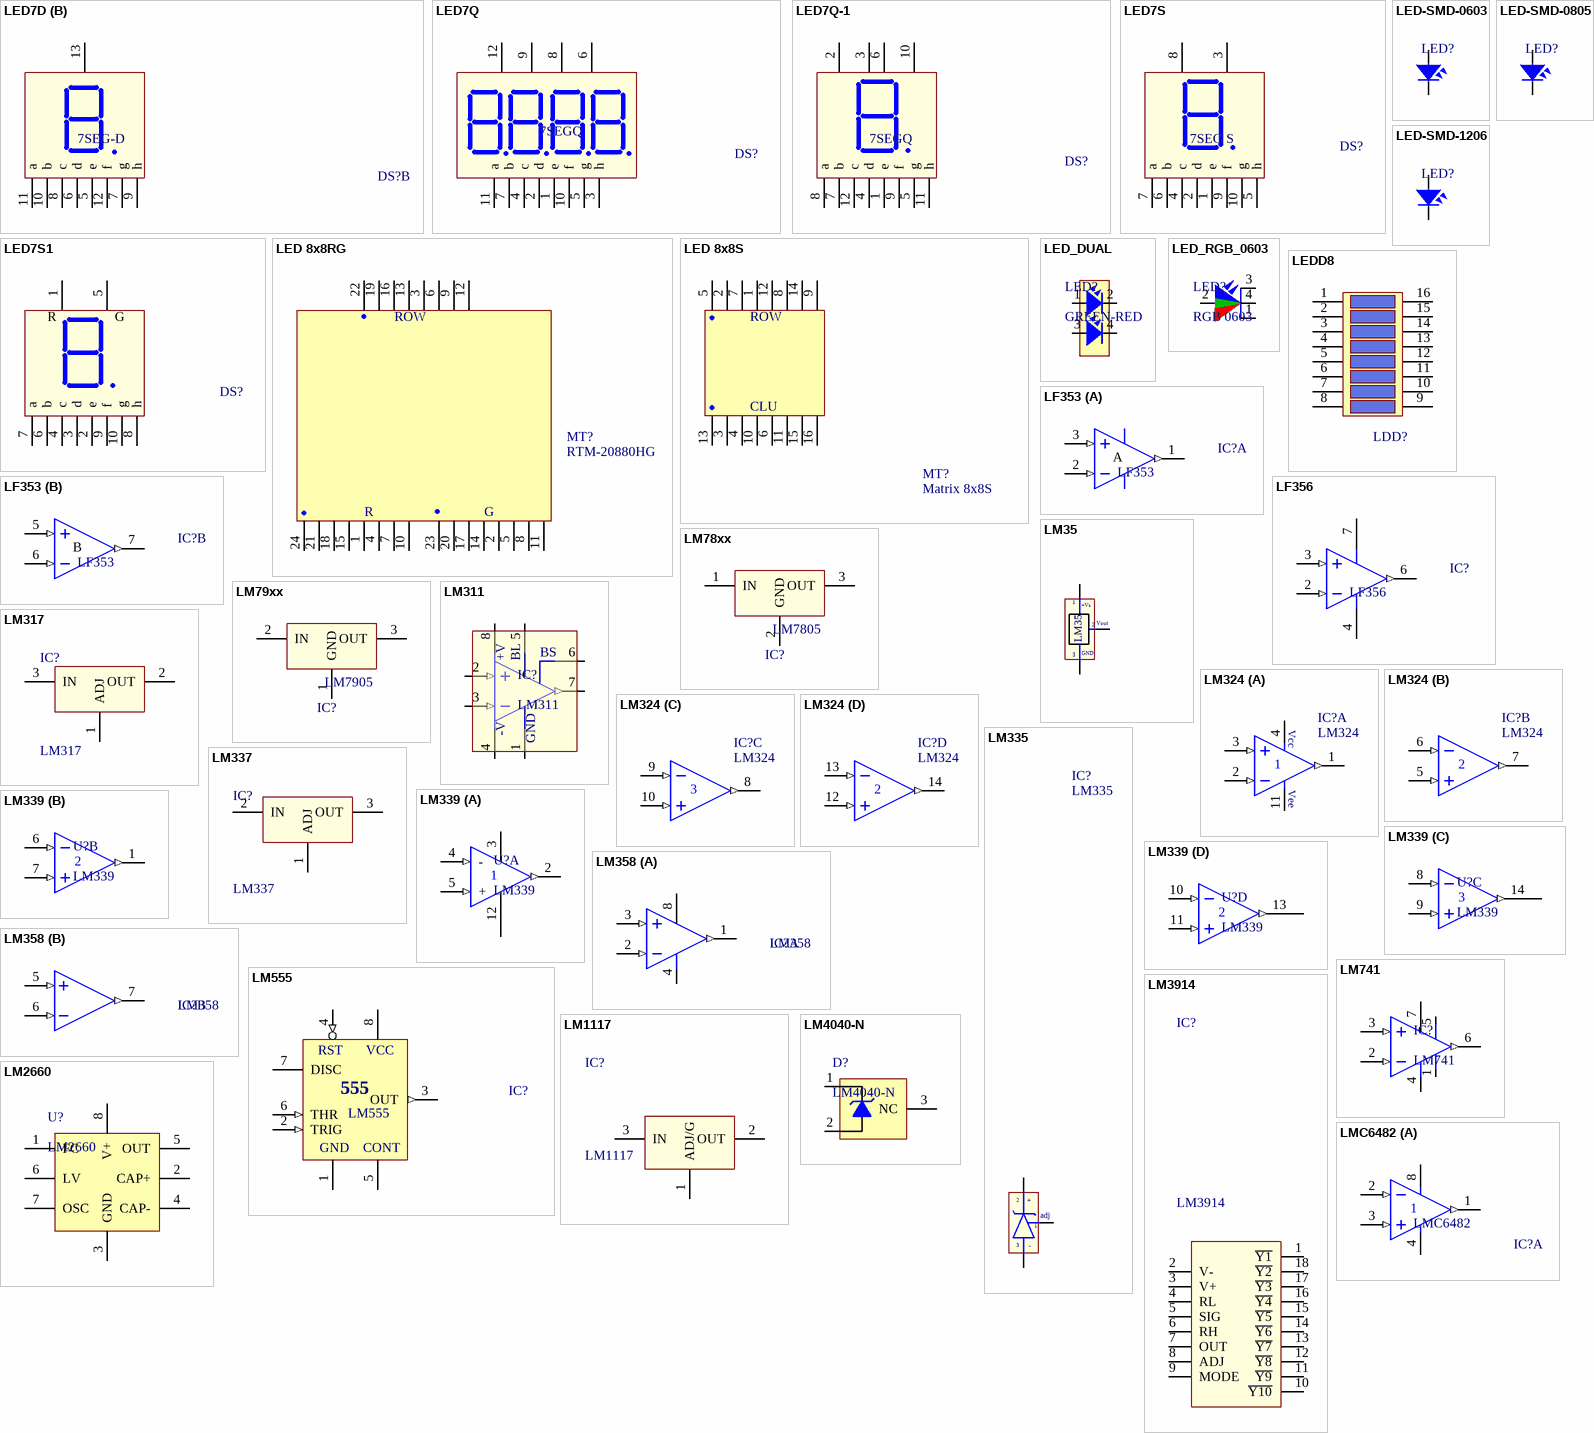
[diagram p15: symbols LED7D to LMC6482]

## LED7D
designator DS?, comment 7SEG-D
Two 7 Seg Dipslay; Value: LED 7D SEG
footprint 7SEGD (DIP 18Leads; Body 24 x 15 mm; Pitch 0.5 mm)
part A pins: 1 e, 2 d, 3 c, 4 h, 14 V1, 15 b, 16 a, 17 g, 18 f
part B pins: 5 e, 6 d, 7 g, 8 c, 9 h, 10 b, 11 a, 12 f, 13 V2

## LED7Q
designator DS?, comment 7SEGQ
Four 7 Seg Dipslay; Value: LED 7Q SEG
footprint 7SEGQ (DIP 12 Leads; Body 48 x 20 mm; Pitch 0.5 mm)
footprint 7SEGQ _028 (DIP 12 Leads; Body 48 x 20 mm; Pitch 0.5 mm)
pins: 1 e, 2 d, 3 h, 4 c, 5 g, 6 V4, 7 b, 8 V3, 9 V2, 10 f, 11 a, 12 V1

## LED7Q-1
designator DS?, comment 7SEGQ
Four 7 Seg Dipslay; Value: LED 7Q SEG
footprint 7SEGQ (DIP 12 Leads; Body 48 x 20 mm; Pitch 0.5 mm)
pins: 1 e, 2 V1, 3 V2, 4 d, 5 g, 6 V3, 7 b, 8 a, 9 f, 10 V4, 11 h, 12 c

## LED7S
designator DS?, comment 7SEG S
Single 7 Seg Dipslay; Value: LED 7S SEG
footprint 7SEGS (DIP 10 Leads; Body 12 x 15 mm; Pitch 0.5 mm)
pins: 1 e, 2 d, 3 Vcc, 4 c, 5 h, 6 b, 7 a, 8 Vcc, 9 f, 10 g

## LED7S1
designator DS?, comment 7SEG S  (value not drawn)
Single 7 Seg Dipslay 29x41 mm; Value: LED 7S SEG
footprint 7SEG_29x41 (DIP 10 Leads; Body 29 x 41 mm; Pitch 0.5 mm)
footprint 7SEG_37x55 (DIP 10 Leads; Body 29 x 41 mm; Pitch 0.5 mm)
pins: 1 R, 2 e, 3 d, 4 c, 5 COM, 6 b, 7 a, 8 h, 9 f, 10 g
text: G

## LED 8x8RG
designator MT?, comment RTM-20880HG
Matrix 8x8, Two colour; Value: Matrix 8x8 two colour
footprint 8x8RG (Matran 8x8 2mau,Body 60 X 60mm)
pins: 1 R5, 2 G5, 3 H5, 4 R6, 5 G6, 6 H6, 7 R7, 8 G7, 9 H7, 10 R8, 11 G8, 12 H8, 13 H4, 14 G4, 15 R4, 16 H3, 17 G3, 18 R3, 19 H2, 20 G2, 21 R2, 22 H1, 23 G1, 24 R1
text: ROW; R; G

## LED 8x8S
designator MT?, comment Matrix 8x8S
Matrix 8x8,  Single colour; Value: Matrix 8x8S
footprint 8x8S (Matran 8x8, Body 60 X 60mm)
pins: 1 H4, 2 H2, 3 C2, 4 C3, 5 H1, 6 C5, 7 H3, 8 H6, 9 H8, 10 C4, 11 C6, 12 H5, 13 C1, 14 H7, 15 C7, 16 C8
text: ROW; CLU

## LED-SMD-0603
designator LED?, comment LED SMD  (value not drawn)
Manufacture: *; Unit Price: *; Value: *
footprint 0603_LED
footprint 0603_LED_RED
pins: 1, 2

## LED-SMD-0805
designator LED?, comment LED SMD  (value not drawn)
Manufacture: *; Unit Price: *; Part Number: *
footprint SM-LED-0805-Blue
footprint SM-LED-0805-Green
footprint SM-LED-0805-Orange
footprint SM-LED-0805-Red
footprint SM-LED-0805-Yellow
pins: 1, 2

## LED-SMD-1206
designator LED?, comment LED SMD  (value not drawn)
footprint SM-LED-1206-Blue (Compoment SMD 120x60mil)
footprint SM-LED-1206-Green
footprint SM-LED-1206-Orange
footprint SM-LED-1206-Red
footprint SM-LED-1206-Yellow
pins: 1, 2

## LED_DUAL
designator LED?, comment GREEN-RED
Dimension：1.6mm×1.6mm×0.7mm
footprint LED4P_16x16 (LTST-C19HE1WT)
pins: 1, 2, 3, 4

## LED_RGB_0603
designator LED?, comment RGB 0603
footprint LED4P_16x16 (LTST-C19HE1WT)
pins: 1, 2, 3, 4

## LEDD8
designator LDD?, comment LED DIP 8  (value not drawn)
Value: LED DIP 8
footprint DIP16/W0.3K (16 PIN, W 300mil, Pin to pin 100mil For Switch)
pins: 1, 2, 3, 4, 5, 6, 7, 8, 9, 10, 11, 12, 13, 14, 15, 16

## LF353
designator IC?
Wide-Bandwidth Dual JFET Input Operational Amplifier; Published: 15-Apr-2002; LatestRevisionDate: 06-Jun-2005; LatestRevisionNote: Stylized 3D Model Added.; DatasheetDocument: Apr-1998; PackageDocument: Sep-1997; Publisher: Altium Limited; ComponentLink1Description: Manufacturer Link; ComponentLink1URL: http://www.national.com/; ComponentLink2Description: Datasheet; ComponentLink2URL: http://www.national.com/ds.cgi/LF/LF353.pdf; ComponentLink3Description: URL Link1; ComponentLink3URL: http://www.national.com/pf/LF/LF353.html; Value: LF353
footprint DIP8/W0.3 (8 PIN, W 300mil, Pin to pin 100mil)
part A pins: 1 OUT (out), 2 IN- (in), 3 IN+ (in)
part B pins: 5 IN+ (in), 6 IN- (in), 7 OUT (out)
part A text: A
part B text: B

## LF356
designator IC?
Wide-Bandwidth Single JFET Input Operational Amplifier; Published: 15-Apr-2002; LatestRevisionDate: 06-Jun-2005; LatestRevisionNote: Stylized 3D Model Added.; DatasheetDocument: Apr-1998; PackageDocument: Sep-1997; Publisher: Altium Limited; ComponentLink1Description: Manufacturer Link; ComponentLink1URL: http://www.national.com/; ComponentLink2Description: Datasheet; ComponentLink2URL: http://www.national.com/ds.cgi/LF/LF353.pdf; ComponentLink3Description: URL Link1; ComponentLink3URL: http://www.national.com/pf/LF/LF353.html; Value: LF356
footprint DIP8/W0.3 (8 PIN, W 300mil, Pin to pin 100mil)
pins: 2 IN- (in), 3 IN+ (in), 4 V- (power), 6 OUT (out), 7 V+ (power)

## LM35
designator U?
Teminal; Value: LM35
footprint QTO-92 (TO-92)
pins: 1 +Vs, 2 Vout, 3 -
text: GND

## LM78xx
designator IC?, comment LM7805
On ap +, from + 5 to + 24VDC; Value: LM7805
footprint QTO-220 (TO-220 - 1-2-3)
footprint QTO-220H3 (TO-220 1-2-3)
footprint QTO-220NH (TO-220 - 1-2-3)
pins: 1 IN, 2 GND, 3 OUT

## LM79xx
designator IC?, comment LM7905
On ap -, from - 5 to - 24VDC; Value: LM7905
footprint QTO-220 (TO-220 - 1-2-3)
footprint QTO-220H3 (TO-220 1-2-3)
footprint QTO-220NH (TO-220 - 1-2-3)
pins: 1 GND, 2 IN, 3 OUT

## LM311
designator IC?
Voltage Comparator; Value: DIP 8; Value: LM311
footprint DIP8/W0.3 (8 PIN, W 300mil, Pin to pin 100mil)
footprint SO-8 (8-Pin Small Outline Integrated Circuit 1.27 mm Pitch, IPC Medium Density)
pins: 1 F2 (power), 2 IN+ (in), 3 IN- (in), 4 GND (power), 5 F1 (power), 6 F2 (power), 7 OUT (out), 8 V+ (power)
text: +V; BL; BS; -V

## LM317
designator IC?
Adj Voltage +1.2 -> +37V; Value: LM317
footprint QTO-220 (TO-220 - 1-2-3)
pins: 1 ADJ, 2 OUT, 3 IN

## LM324
designator IC?
Op x 4; Value: LM324
footprint DIP14/W0.3 (14PIN, W 300mil)
part A pins: 1 OUT (out), 2 IN- (in), 3 IN+ (in), 4 V+ (power), 11 V- (power)
part B pins: 5 IN+ (in), 6 IN- (in), 7 OUT (out)
part C pins: 8 OUT (out), 9 IN- (in), 10 IN+ (in)
part D pins: 12 IN+ (in), 13 IN- (in), 14 OUT (out)
part A text: Vcc; Vee

## LM335
designator IC?
Teminal; Value: LM335
footprint QTO-92 (TO-92)
pins: 1 adj, 2 +, 3 -

## LM337
designator IC?
On ap (-)     -1.2 -> - 37V; Value: LM337
footprint QTO-220 (TO-220 - 1-2-3)
pins: 1 ADJ, 2 IN, 3 OUT

## LM339
designator U?
Low Power Low Offset Voltage Quad Comparators
footprint DIP14/W0.3 (14PIN, W 300mil, Pin to pin 100mil)
part A pins: 2 OUT (out), 3 VCC (power), 4 - (in), 5 + (in), 12 GND (power)
part B pins: 1 OUT (out), 6 IN- (in), 7 IN+ (in)
part C pins: 8 OUT (in), 9 IN- (in), 14 15 (out)
part D pins: 10 IN- (in), 11 IN+ (in), 13 15 (out)

## LM358
designator IC?
Low-Power Dual Operational Amplifier; Value: LM358
footprint DIP8/W0.3 (8 PIN, W 300mil, Pin to pin 100mil)
footprint SOP8
part A pins: 1 OUT (out), 2 IN- (in), 3 IN+ (in), 4 -V, 8 +V
part B pins: 5 IN+ (in), 6 IN- (in), 7 OUT (out)

## LM555
designator IC?
Timer; Value: LM555
footprint DIP8/W0.3 (8 PIN, W 300mil, Pin to pin 100mil)
pins: 1 GND (power), 2 TRIG (in), 3 OUT (out), 4 RST (in), 5 CONT, 6 THR (in), 7 DISC (oc), 8 VCC (power)
text: 555

## LM741
designator IC?
Single OA
footprint DIP8/W0.3 (8 PIN, W 300mil, Pin to pin 100mil)
pins: 1 Vos, 2 IN- (in), 3 IN+ (in), 4 -V, 5 Vos, 6 OUT (out), 7 +V

## LM1117
designator IC?
Available in 1.8V, 2.5V, 2.85V, 3.3V, 5V, and  Adjustable Versions; Value: LM317
footprint SOT223-4N (SOT223, 4-Leads, Body 6.5x3.5mm, Pitch 2.3mm, Lead Span 7mm, IPC Medium Density)
pins: 1 ADJ/G, 2 OUT, 3 IN

## LM2660
designator U?
Switched Capacitor Voltage Converter
footprint VSSOP8 (DGK) (VSSOP-8, 3mmx3mm 0.65 Pitch)
pins: 1 FC, 2 CAP+, 3 GND, 4 CAP-, 5 OUT, 6 LV, 7 OSC, 8 V+

## LM3914
designator IC?
Value: LM3914
footprint DIP18/W0.3 (18 PIN, W 300mil, Pin to pin 100mil)
pins: 1 ~{Y1}, 2 V-, 3 V+, 4 RL, 5 SIG, 6 RH, 7 OUT, 8 ADJ, 9 MODE, 10 ~{Y10}, 11 ~{Y9}, 12 ~{Y8}, 13 ~{Y7}, 14 ~{Y6}, 15 ~{Y5}, 16 ~{Y4}, 17 ~{Y3}, 18 ~{Y2}

## LM4040-N
designator D?
Precision Micropower Shunt Voltage Reference
footprint SOT-23_L (SOT23, 3-Leads, Body 2.9x1.3mm, Pitch 0.95mm, Lead Span 2.5mm, IPC High Density)
footprint SOT-23_M (SOT23, 3-Leads, Body 2.9x1.3mm, Pitch 0.95mm, Lead Span 2.5mm, IPC Low Density)
footprint SOT-23_N (SOT23, 3-Leads, Body 2.9x1.3mm, Pitch 0.95mm, Lead Span 2.5mm, IPC Medium Density)
pins: 1 K, 2 A, 3 NC

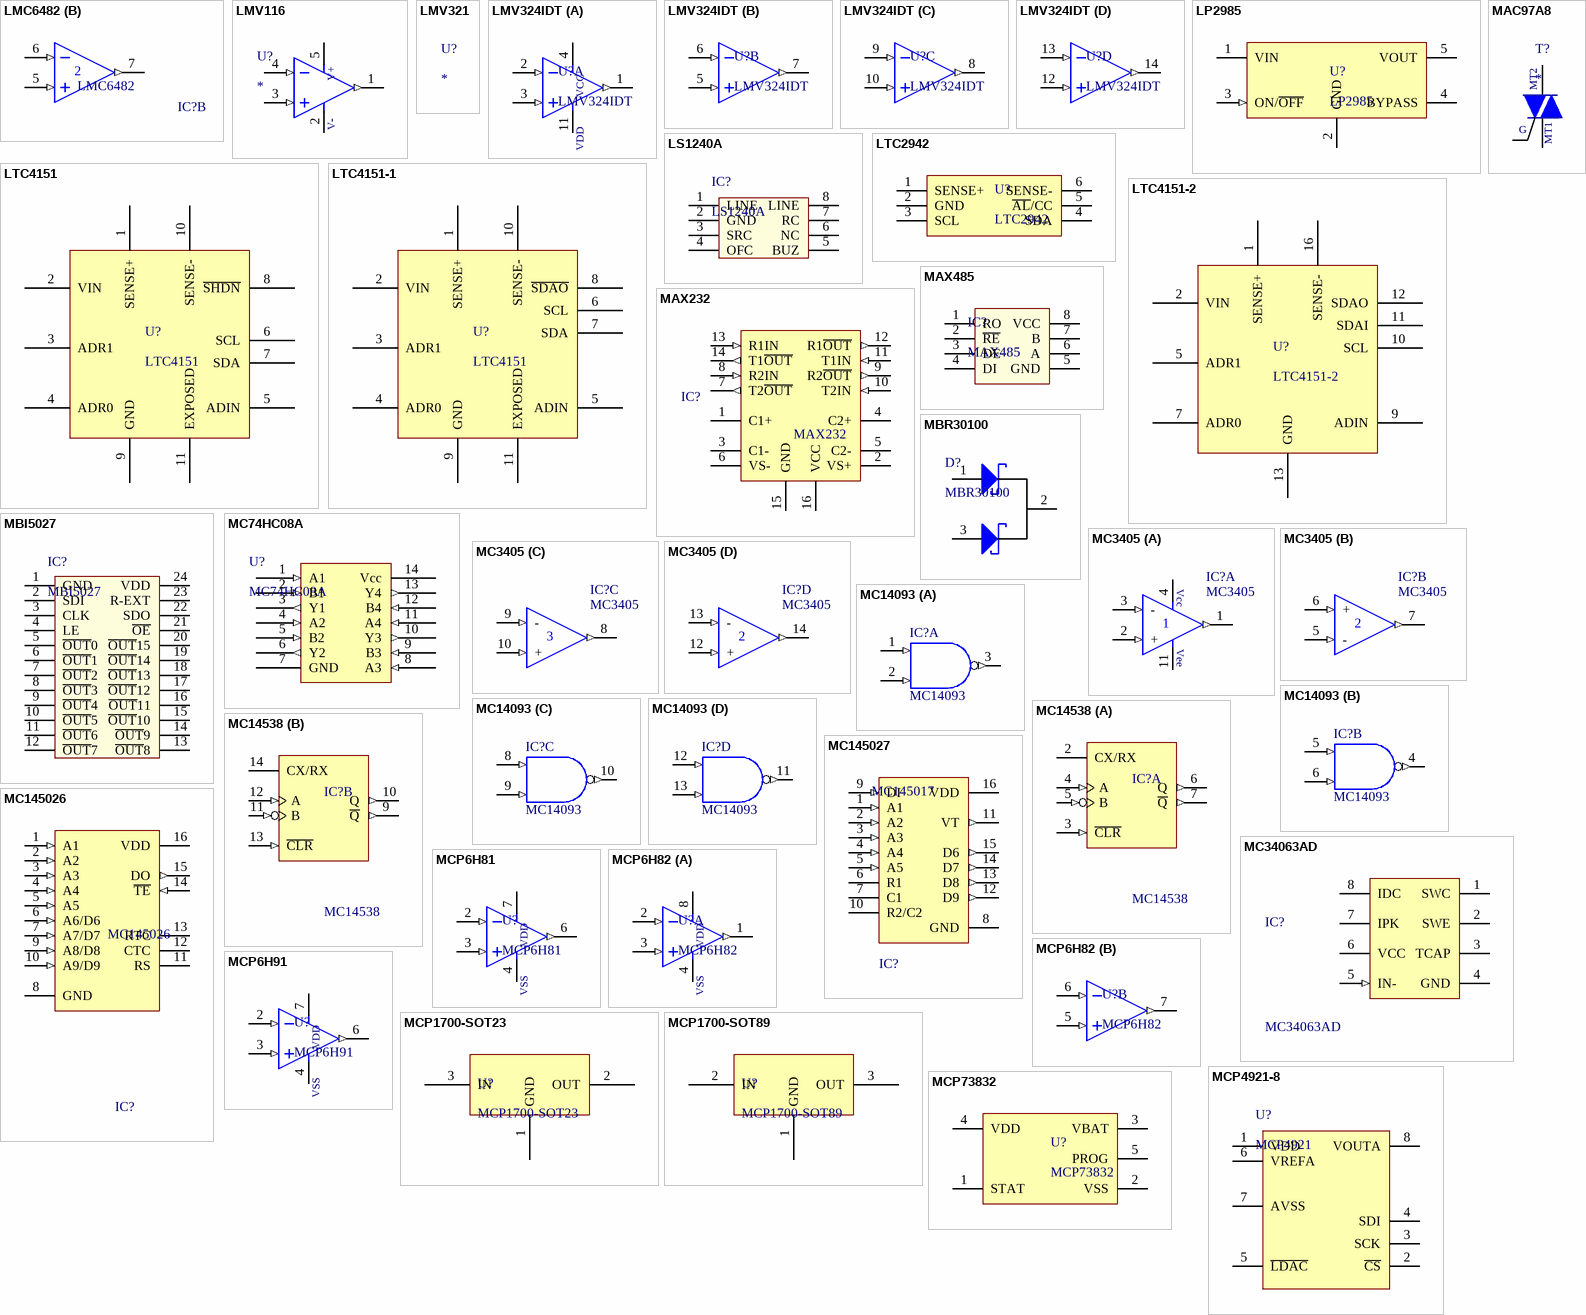
[diagram p16: symbols LMC6482 to MCP73832]

## LMC6482
designator IC?
Dual OA; Value: LMC6482
footprint DIP8/W0.3 (8 PIN, W 300mil, Pin to pin 100mil)
part A pins: 1 OUT (out), 2 IN- (in), 3 IN+ (in), 4 V- (power), 8 V+ (power)
part B pins: 5 IN+ (in), 6 IN- (in), 7 OUT (out)

## LMV116
designator U?
Low-Voltage, 45-MHz, Rail-To-Rail Output Operational Amplifiers
footprint SOT-23-5
pins: 1 OUT (out), 2 V- (power), 3 IN+ (in), 4 IN- (in), 5 V+ (power)

## LMV321
designator U?
footprint SOT-23-5

## LMV324IDT
designator U?
Low cost, low power, input/output rail-to-rail operational amplifiers
footprint SO-14 (SOIC, 14-Leads, Body 9.9x3.9mm, Pitch 1.27mm, IPC Medium Density)
part A pins: 1 OUT1 (out), 2 IN1- (in), 3 IN1+ (in), 4 VCC (power), 11 VDD (power)
part B pins: 5 IN2+ (in), 6 IN2- (in), 7 OUT2 (out)
part C pins: 8 OUT3 (out), 9 IN3- (in), 10 IN3+ (in)
part D pins: 12 IN4+ (in), 13 IN4- (in), 14 OUT4 (out)

## LP2985
designator U?
3.3V 0.15A Low-Noise LDO Regulator With Shutdown; Manufacture: Texas Instruments; Part Number: LP2985-33DBVR; Unit Price: 6000
footprint SOT-23-5
pins: 1 VIN, 2 GND, 3 ON/~{OFF} (in), 4 BYPASS, 5 VOUT

## LS1240A
designator IC?
Electronic Two-Tone Ringer
footprint DIP8/W0.3 (8 PIN, W 300mil, Pin to pin 100mil)
pins: 1 LINE, 2 GND, 3 SRC, 4 OFC, 5 BUZ, 6 NC, 7 RC, 8 LINE

## LTC2942
designator U?
Battery Gas Gauge  with Temperature,  Voltage Measurement
footprint DFN6
pins: 1 SENSE+, 2 GND, 3 SCL, 4 SDA, 5 ~{AL}/CC, 6 SENSE-

## LTC4151
designator U?
High Voltage I2C Current  and Voltage Monitor
footprint DFN10 (DD Package . 10-Lead Plastic DFN (3mm × 3mm))
footprint MSOP10 (MS Package  10-Lead Plastic MSOP)
pins: 1 SENSE+, 2 VIN, 3 ADR1, 4 ADR0, 5 ADIN, 6 SCL, 7 SDA, 8 ~{SHDN}, 9 GND, 10 SENSE-, 11 EXPOSED

## LTC4151-1
designator U?, comment LTC4151
High Voltage I2C Current  and Voltage Monitor
footprint DFN10 (DD Package . 10-Lead Plastic DFN (3mm × 3mm))
footprint MSOP10 (MS Package  10-Lead Plastic MSOP)
pins: 1 SENSE+, 2 VIN, 3 ADR1, 4 ADR0, 5 ADIN, 6 SCL, 7 SDA, 8 ~{SDAO}, 9 GND, 10 SENSE-, 11 EXPOSED

## LTC4151-2
designator U?
High Voltage I2C Current  and Voltage Monitor
pins: 1 SENSE+, 2 VIN, 5 ADR1, 7 ADR0, 9 ADIN, 10 SCL, 11 SDAI, 12 SDAO, 13 GND, 16 SENSE-

## MAC97A8
designator T?
footprint TO-92 - S254 (TO-92, Thru-Hole, Vertical,  3 In-Line Leads; Pitch 2.54 mm)
pins: 1 MT1, 2 G, 3 MT2

## MAX232
designator IC?
Dual EIA-232 Driver/Receiver; Value: MAX232
footprint DIP16/W0.3 (16 PIN, W 300mil, Pin to pin 100mil)
footprint SO-G16 (Small Outline; 16 Leads; Body Width 3.9 mm; Pitch 1.27 mm)
pins: 1 C1+, 2 VS+ (power), 3 C1-, 4 C2+, 5 C2-, 6 VS- (power), 7 T2~{OUT} (out), 8 R2IN (in), 9 R2~{OUT} (out), 10 T2IN (in), 11 T1IN (in), 12 R1~{OUT} (out), 13 R1IN (in), 14 T1~{OUT} (out), 15 GND (power), 16 VCC (power)

## MAX485
designator IC?
RS232 - RS485 (Same sn75176)
footprint DIP8/W0.3 (8 PIN, W 300mil, Pin to pin 100mil)
footprint SO-8 (8-Pin Small Outline Integrated Circuit 1.27 mm Pitch, IPC Medium Density)
pins: 1 RO "Receiver Output", 2 ~{RE} "Receiver Enable Output", 3 DE "Driver Enable Output", 4 DI "Driver Input", 5 GND, 6 A "RI & NoneDO", 7 B "NoneDI", 8 VCC

## MBI5027
designator IC?
16 bit Constant Current LED; Creat by: VanDungEvn@Gmail.com; Compoment same: SM16126
footprint SOP_24M_127 (SOP, 24-Leads, Body 15.6x8.1mm, Pitch 1.27mm, IPC Low Density)
pins: 1 GND, 2 SDI, 3 CLK, 4 LE, 5 ~{OUT}0, 6 ~{OUT}1, 7 ~{OUT}2, 8 ~{OUT}3, 9 ~{OUT}4, 10 ~{OUT}5, 11 ~{OUT}6, 12 ~{OUT}7, 13 ~{OUT}8, 14 ~{OUT}9, 15 ~{OUT}10, 16 ~{OUT}11, 17 ~{OUT}12, 18 ~{OUT}13, 19 ~{OUT}14, 20 ~{OUT}15, 21 ~{OE}, 22 SDO, 23 R-EXT, 24 VDD

## MBR30100
designator D?
footprint QTO-220 (TO-220 - 1-2-3)
pins: 1, 2, 3

## MC74HC08A
designator U?
Quad 2-Input AND Gate
footprint SOP14
pins: 1 A1 (in), 2 B1 (in), 3 Y1 (out), 4 A2 (in), 5 B2 (in), 6 Y2 (out), 7 GND (power), 8 A3 (in), 9 B3 (in), 10 Y3 (out), 11 A4 (in), 12 B4 (in), 13 Y4 (out), 14 Vcc (power)

## MC3405
designator IC?
Dual operation Ampllifier and dual comparator; Value: LM324
footprint DIP14/W0.3 (14PIN, W 300mil)
part A pins: 1 OUT (out), 2 + (in), 3 - (in), 4 V+ (power), 11 V- (power)
part B pins: 5 - (in), 6 + (in), 7 OUT (out)
part C pins: 8 OUT (out), 9 - (in), 10 + (in)
part D pins: 12 + (in), 13 - (in), 14 OUT (out)
part A text: Vcc; Vee

## MC14093
designator IC?
Quad 2-Input NAND Schmitt Trigger; Value: MC14093
footprint DIP14/W0.3 (14PIN, W 300mil, Pin to pin 100mil)
pins on every part: 7 GND (power) hidden to GND, 14 VDD (power) hidden to VDD
part A pins: 1 A (in), 2 B (in), 3 ~{Y} (out)
part B pins: 4 ~{Y} (out), 5 A (in), 6 B (in)
part C pins: 8 A (in), 9 B (in), 10 ~{Y} (out)
part D pins: 11 ~{Y} (out), 12 A (in), 13 B (in)

## MC14538
designator IC?
Dual Precision Retriggerable/Resettable Monostable Multivibrator; Value: MC14538
footprint DIP16/W0.3 (16 PIN, W 300mil, Pin to pin 100mil)
pins on every part: 1 GND (power) hidden to GND, 8 GND (power) hidden to GND, 15 GND (power) hidden to GND, 16 VDD (power) hidden to VDD
part A pins: 2 CX/RX, 3 ~{CLR} (in), 4 A (in), 5 B (in), 6 Q (out), 7 ~{Q} (out)
part B pins: 9 ~{Q} (out), 10 Q (out), 11 B (in), 12 A (in), 13 ~{CLR} (in), 14 CX/RX

## MC34063AD
designator IC?
DC-to-DC Converter Control Circuit; Published: 15-Apr-2002; LatestRevisionDate: 13-Apr-2006; LatestRevisionNote: IPC-7351 Footprint Added.; DatasheetVersion: 1996; PackageVersion: 1998; PackageReference: 751-05; Publisher: Altium Limited; PackageDescription: 8-Pin Small Outline Integrated Circuit 1.27 mm Pitch; Code_JEDEC: MS-012-AA; Code_IPC: SOIC127P600-8; ComponentLink1Description: Manufacturer Link; ComponentLink1URL: http://www.onsemi.com/site/products/taxonomy/0,4438,503,00.html; ComponentLink2Description: Datasheet; ComponentLink2URL: http://www.onsemi.com/pub/Collateral/MC34063A-D.PDF
footprint SO-G8/Z7.45 (Small Outline; 8 Leads; Body Width 3.9 mm; Pitch 1.27 mm)
footprint DIP8/W0.3 (8 PIN, W 300mil, Pin to pin 100mil)
footprint SOP8
pins: 1 SWC, 2 SWE, 3 TCAP, 4 GND (power), 5 IN- (in), 6 VCC (power), 7 IPK, 8 IDC (oc)

## MC145026
designator IC?
Encoder Remote; Value: MC145026
footprint DIP16/W0.3 (16 PIN, W 300mil, Pin to pin 100mil)
pins: 1 A1 (in), 2 A2 (in), 3 A3 (in), 4 A4 (in), 5 A5 (in), 6 A6/D6 (in), 7 A7/D7 (in), 8 GND (power), 9 A8/D8 (in), 10 A9/D9 (in), 11 RS, 12 CTC, 13 RTC, 14 ~{TE} (in), 15 DO (out), 16 VDD (power)

## MC145027
designator IC?, comment MC145017
Decoder Remote; Value: MC145027
footprint DIP16/W0.3 (16 PIN, W 300mil, Pin to pin 100mil)
pins: 1 A1 (in), 2 A2 (in), 3 A3 (in), 4 A4 (in), 5 A5 (in), 6 R1, 7 C1, 8 GND (power), 9 DI (in), 10 R2/C2, 11 VT (out), 12 D9 (out), 13 D8 (out), 14 D7 (out), 15 D6 (out), 16 VDD (power)

## MCP6H81
designator U?
5.5 MHz, 12V Op Amps
footprint SO-8_L (8-Pin Small Outline Integrated Circuit 1.27 mm Pitch, IPC high Density)
pins: 2 IN- (in), 3 IN+ (in), 4 VSS (power), 6 OUT (out), 7 VDD (power)